# Altium integrated library Xilinx Spartan-IIE.IntLib: 126 symbols (part 6 of 22)
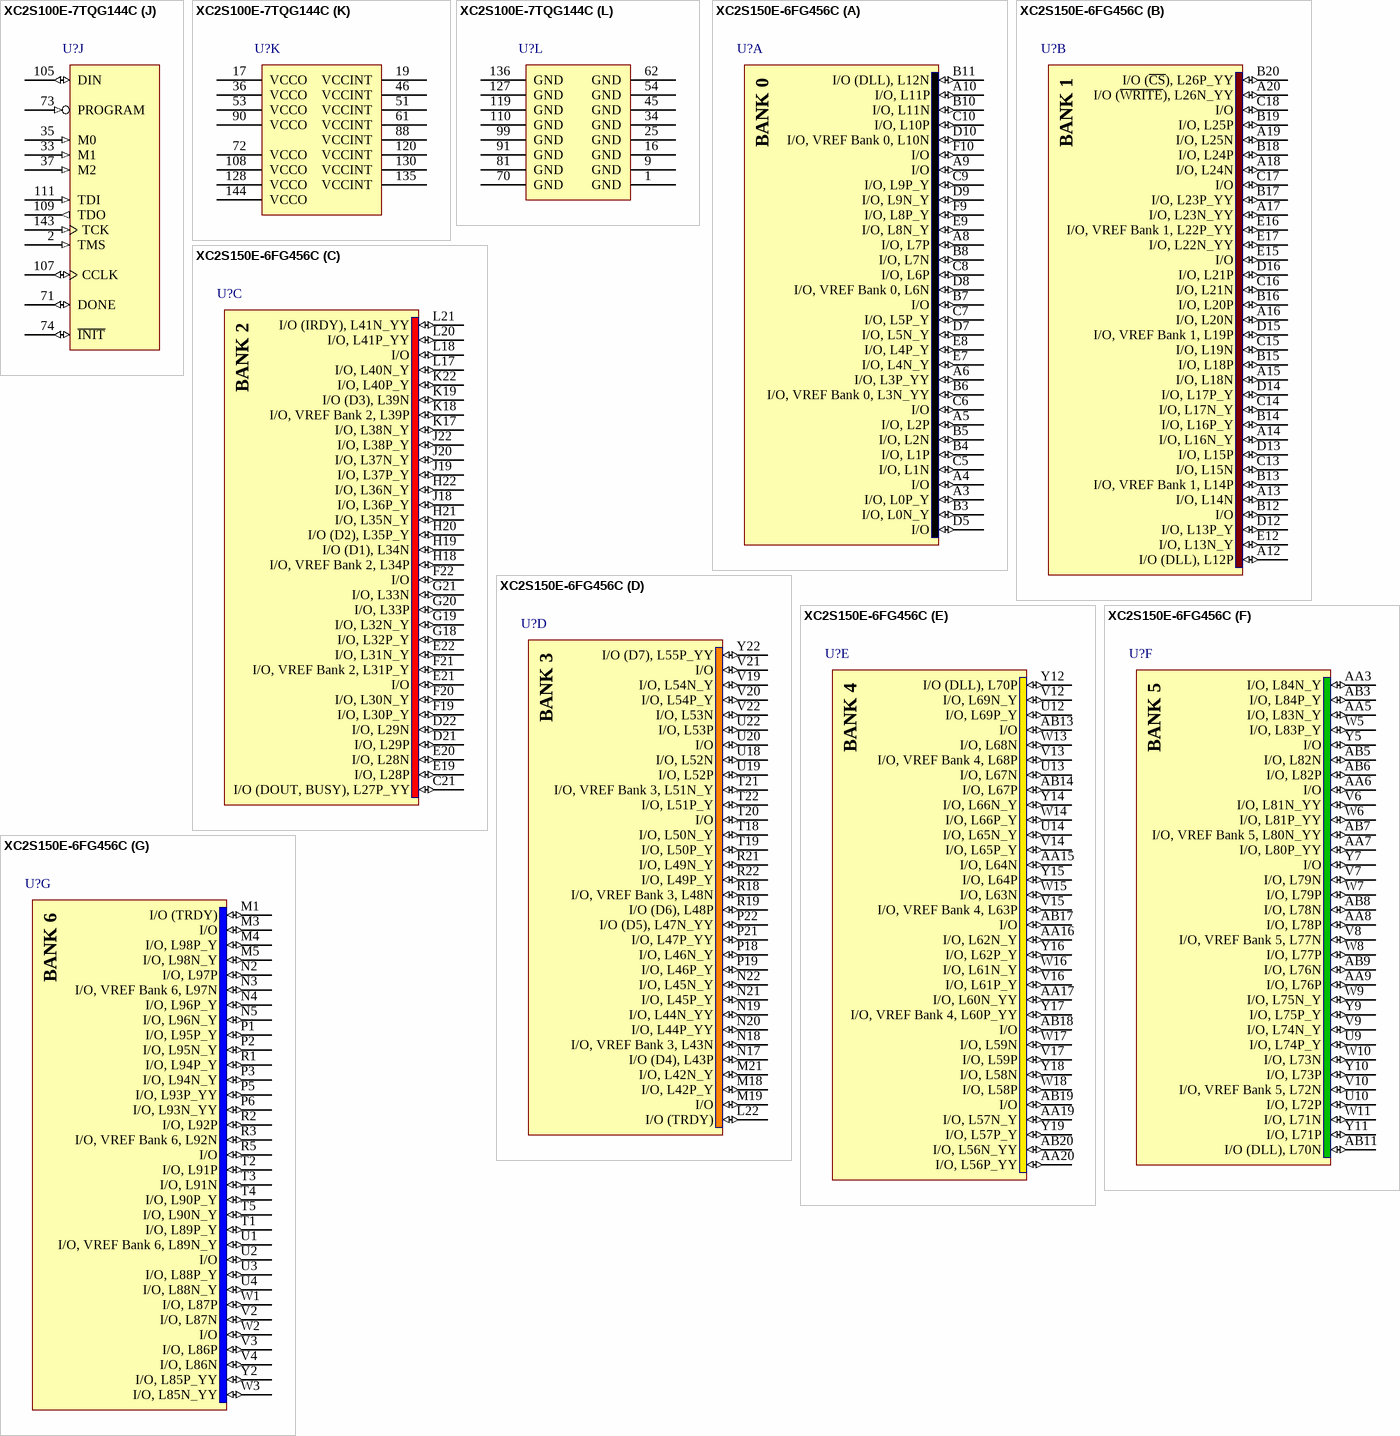
[diagram p122: symbols XC2S100E-7TQG144C to XC2S150E-6FG456C]

## XC2S100E-7TQG144C
designator U?
Spartan-IIE 1.8V FPGA, 144-Pin TQFP, Higher Performance, Commercial Grade, Pb-Free; Published: 2-Mar-2006; DatasheetVersion: 28-Jul-2004; PackageVersion: ver1.2, Jun-2004; PackageReference: TQG144; Publisher: Altium Limited; PackageDescription: 144-Pin Thin Quad Flat Pack (TQG144) - Pb-Free; Code_JEDEC: MS-026-BFB; ComponentLink1Description: Manufacturer Link; ComponentLink1URL: http://www.xilinx.com/products/silicon_solutions/fpgas/spartan_series/spartan2e_fpgas/index.htm; ComponentLink2Description: Datasheet; ComponentLink2URL: http://direct.xilinx.com/bvdocs/publications/ds077.pdf
footprint TQG144_N (Thin QFP, 144-Leads, Body 20x20mm, Pitch 0.5mm, IPC Medium Density)
footprint TQG144_L (Thin QFP, 144-Leads, Body 20x20mm, Pitch 0.5mm, IPC High Density)
footprint TQG144_M (Thin QFP, 144-Leads, Body 20x20mm, Pitch 0.5mm, IPC Low Density)
3D model XC2S100E-TQ144 (144-Pin Thin Quad Flat Pack (TQG144) - Pb-Free)
signal-integrity model XC2S100E_TQG144 (Spartan-IIE)
part A pins: 131 I/O (DLL), L2N (io), 132 I/O, VREF 0 (io), 133 I/O, L1P_YY (io), 134 I/O, L1N_YY (io), 137 I/O, L0P_YY (io), 138 I/O, VREF 0, L0N_YY (io), 139 I/O (io), 140 I/O, VREF 0 (io), 141 I/O (io), 142 I/O (io)
part B pins: 112 I/O (~{CS}), L5P_YY (io), 113 I/O (~{WRITE}), L5N_YY (io), 114 I/O (io), 115 I/O, VREF 1 (io), 116 I/O (io), 117 I/O, VREF 1, L4P_YY (io), 118 I/O, L4N_YY (io), 121 I/O, L3P_YY (io), 122 I/O, L3N_YY (io), 123 I/O, VREF 1 (io), 124 I/O (io), 125 I/O (DLL), L2P (io)
part C pins: 92 I/O (IRDY) (io), 93 I/O (io), 94 I/O (D3), L9N (io), 95 I/O, VREF 2, L9P (io), 96 I/O (io), 97 I/O, L8N_YY (io), 98 I/O (D2), L8P_YY (io), 100 I/O (D1), L7N (io), 101 I/O, VREF 2, L7P (io), 102 I/O (io), 103 I/O, VREF 2 (io), 104 I/O (io), 106 I/O (DOUT, BUSY), L6P_YY (io)
part D pins: 75 I/O (D7), L13P_YY (io), 76 I/O (io), 77 I/O, VREF 3 (io), 78 I/O (io), 79 I/O, VREF 3, L12N (io), 80 I/O (D6), L12P (io), 82 I/O (D5), L11N_YY (io), 83 I/O, L11P_YY (io), 84 I/O (io), 85 I/O, VREF 3, L10N (io), 86 I/O (D4), L10P (io), 87 I/O (io), 89 I/O (TRDY) (io)
part E pins: 56 I/O (DLL), L17P (io), 57 I/O (io), 58 I/O, VREF 4 (io), 59 I/O, L16N_YY (io), 60 I/O, L16P_YY (io), 63 I/O, L15N_YY (io), 64 I/O, VREF 4, L15P_YY (io), 65 I/O (io), 66 I/O, VREF 4 (io), 67 I/O (io), 68 I/O, L14N_YY (io), 69 I/O, L14P_YY (io)
part F pins: 38 I/O, L20N_YY (io), 39 I/O, L20P_YY (io), 40 I/O (io), 41 I/O, VREF 5 (io), 42 I/O (io), 43 I/O, VREF 5, L19N_YY (io), 44 I/O, L19P_YY (io), 47 I/O, L18N_YY (io), 48 I/O, L18P_YY (io), 49 I/O, VREF 5 (io), 50 I/O (DLL), L17N (io)
part G pins: 18 I/O (TRDY) (io), 20 I/O (io), 21 I/O, L24P (io), 22 I/O, VREF 6, L24N (io), 23 I/O, L23P_YY (io), 24 I/O, L23N_YY (io), 26 I/O, L22P (io), 27 I/O, VREF 6, L22N (io), 28 I/O (io), 29 I/O, VREF 6 (io), 30 I/O (io), 31 I/O, L21P_YY (io), 32 I/O, L21N_YY (io)
part H pins: 3 I/O (io), 4 I/O (io), 5 I/O, VREF 7 (io), 6 I/O (io), 7 I/O, VREF 7, L27P (io), 8 I/O, L27N (io), 10 I/O, L26P_YY (io), 11 I/O, L26N_YY (io), 12 I/O, VREF 7, L25P (io), 13 I/O, L25N (io), 14 I/O (io), 15 I/O (IRDY) (io)
part I pins: 52 GCK1, I (in), 55 GCK0, I (in), 126 GCK2, I (in), 129 GCK3, I (in)
part J pins: 2 TMS (in), 33 M1 (in), 35 M0 (in), 37 M2 (in), 71 DONE (io), 73 PROGRAM (in), 74 ~{INIT} (io) "I/O (I\N\I\T\), L13N_YY", 105 DIN (io) "I/O (DIN, D0), L6N_YY", 107 CCLK (io), 109 TDO (out), 111 TDI (in), 143 TCK (in)
part K pins: 17 VCCO (power), 19 VCCINT (power), 36 VCCO (power), 46 VCCINT (power), 51 VCCINT (power), 53 VCCO (power), 61 VCCINT (power), 72 VCCO (power), 88 VCCINT (power), 90 VCCO (power), 108 VCCO (power), 120 VCCINT (power), 128 VCCO (power), 130 VCCINT (power), 135 VCCINT (power), 144 VCCO (power)
part L pins: 1 GND (power), 9 GND (power), 16 GND (power), 25 GND (power), 34 GND (power), 45 GND (power), 54 GND (power), 62 GND (power), 70 GND (power), 81 GND (power), 91 GND (power), 99 GND (power), 110 GND (power), 119 GND (power), 127 GND (power), 136 GND (power)
part A text: BANK 0
part B text: BANK 1
part C text: BANK 2
part D text: BANK 3
part E text: BANK 4
part F text: BANK 5
part G text: BANK 6
part H text: BANK 7

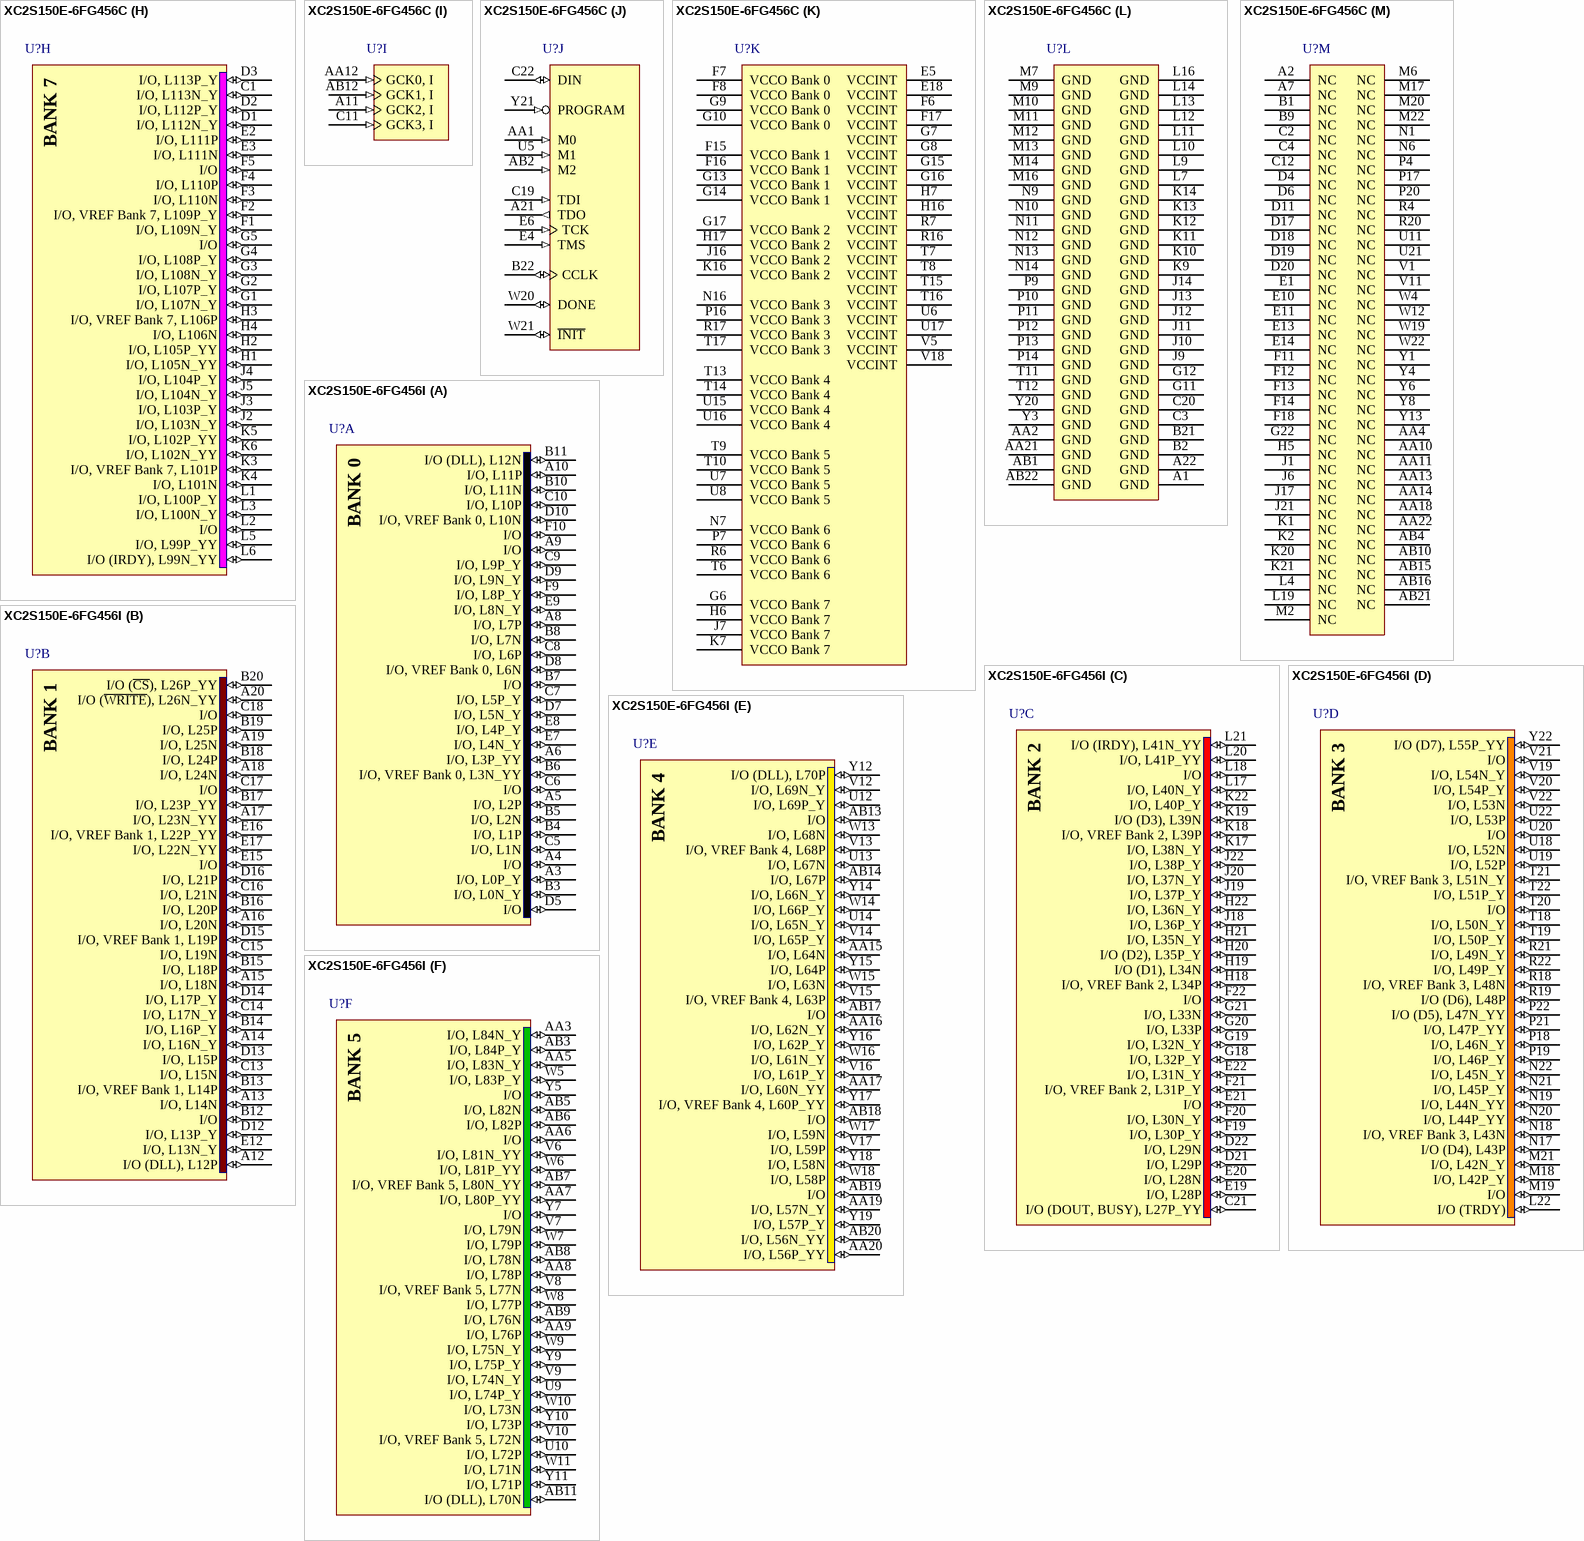
[diagram p30: symbols XC2S150E-6FG456C to XC2S150E-6FG456I]

## XC2S150E-6FG456C
designator U?
Spartan-IIE 1.8V FPGA, 456-Ball FBGA, Standard Performance, Commercial Grade; Published: 17-Jan-2003; LatestRevisionDate: 13-Apr-2006; LatestRevisionNote: IPC-7351 Footprint Added.; DatasheetVersion: 28-Jul-2004; PackageVersion: ver1.2.1, Mar-2005; PackageReference: FG456; Publisher: Altium Limited; PackageDescription: 456-Ball Fine Pitch Ball Grid Array (FG456); Code_JEDEC: MO-151-AAJ-1 (Depopulated); ComponentLink1Description: Manufacturer Link; ComponentLink1URL: http://www.xilinx.com/products/silicon_solutions/fpgas/spartan_series/spartan2e_fpgas/index.htm; ComponentLink2Description: Datasheet; ComponentLink2URL: http://direct.xilinx.com/bvdocs/publications/ds077.pdf
footprint FG456 (BGA, 456-Leads, Body 23x23mm, Pitch 1mm)
3D model XC2S150E-FG456 (456-Ball Fine Pitch Ball Grid Array (FG456))
signal-integrity model XC2S150E_FG456 (Spartan-IIE)
part A pins: A3 I/O, L0P_Y (io), A4 I/O (io), A5 I/O, L2P (io), A6 I/O, L3P_YY (io), A8 I/O, L7P (io), A9 I/O (io), A10 I/O, L11P (io), B3 I/O, L0N_Y (io), B4 I/O, L1P (io), B5 I/O, L2N (io), B6 I/O, VREF Bank 0, L3N_YY (io), B7 I/O (io), B8 I/O, L7N (io), B10 I/O, L11N (io), B11 I/O (DLL), L12N (io), C5 I/O, L1N (io), C6 I/O (io), C7 I/O, L5P_Y (io), C8 I/O, L6P (io), C9 I/O, L9P_Y (io), C10 I/O, L10P (io), D5 I/O (io), D7 I/O, L5N_Y (io), D8 I/O, VREF Bank 0, L6N (io), D9 I/O, L9N_Y (io), D10 I/O, VREF Bank 0, L10N (io), E7 I/O, L4N_Y (io), E8 I/O, L4P_Y (io), E9 I/O, L8N_Y (io), F9 I/O, L8P_Y (io), F10 I/O (io)
part B pins: A12 I/O (DLL), L12P (io), A13 I/O, L14N (io), A14 I/O, L16N_Y (io), A15 I/O, L18N (io), A16 I/O, L20N (io), A17 I/O, L23N_YY (io), A18 I/O, L24N (io), A19 I/O, L25N (io), A20 I/O (~{WRITE}), L26N_YY (io), B12 I/O (io), B13 I/O, VREF Bank 1, L14P (io), B14 I/O, L16P_Y (io), B15 I/O, L18P (io), B16 I/O, L20P (io), B17 I/O, L23P_YY (io), B18 I/O, L24P (io), B19 I/O, L25P (io), B20 I/O (~{CS}), L26P_YY (io), C13 I/O, L15N (io), C14 I/O, L17N_Y (io), C15 I/O, L19N (io), C16 I/O, L21N (io), C17 I/O (io), C18 I/O (io), D12 I/O, L13P_Y (io), D13 I/O, L15P (io), D14 I/O, L17P_Y (io), D15 I/O, VREF Bank 1, L19P (io), D16 I/O, L21P (io), E12 I/O, L13N_Y (io), E15 I/O (io), E16 I/O, VREF Bank 1, L22P_YY (io), E17 I/O, L22N_YY (io)
part C pins: C21 I/O (DOUT, BUSY), L27P_YY (io), D21 I/O, L29P (io), D22 I/O, L29N (io), E19 I/O, L28P (io), E20 I/O, L28N (io), E21 I/O (io), E22 I/O, L31N_Y (io), F19 I/O, L30P_Y (io), F20 I/O, L30N_Y (io), F21 I/O, VREF Bank 2, L31P_Y (io), F22 I/O (io), G18 I/O, L32P_Y (io), G19 I/O, L32N_Y (io), G20 I/O, L33P (io), G21 I/O, L33N (io), H18 I/O, VREF Bank 2, L34P (io), H19 I/O (D1), L34N (io), H20 I/O (D2), L35P_Y (io), H21 I/O, L35N_Y (io), H22 I/O, L36N_Y (io), J18 I/O, L36P_Y (io), J19 I/O, L37P_Y (io), J20 I/O, L37N_Y (io), J22 I/O, L38P_Y (io), K17 I/O, L38N_Y (io), K18 I/O, VREF Bank 2, L39P (io), K19 I/O (D3), L39N (io), K22 I/O, L40P_Y (io), L17 I/O, L40N_Y (io), L18 I/O (io), L20 I/O, L41P_YY (io), L21 I/O (IRDY), L41N_YY (io)
part D pins: L22 I/O (TRDY) (io), M18 I/O, L42P_Y (io), M19 I/O (io), M21 I/O, L42N_Y (io), N17 I/O (D4), L43P (io), N18 I/O, VREF Bank 3, L43N (io), N19 I/O, L44N_YY (io), N20 I/O, L44P_YY (io), N21 I/O, L45P_Y (io), N22 I/O, L45N_Y (io), P18 I/O, L46N_Y (io), P19 I/O, L46P_Y (io), P21 I/O, L47P_YY (io), P22 I/O (D5), L47N_YY (io), R18 I/O, VREF Bank 3, L48N (io), R19 I/O (D6), L48P (io), R21 I/O, L49N_Y (io), R22 I/O, L49P_Y (io), T18 I/O, L50N_Y (io), T19 I/O, L50P_Y (io), T20 I/O (io), T21 I/O, VREF Bank 3, L51N_Y (io), T22 I/O, L51P_Y (io), U18 I/O, L52N (io), U19 I/O, L52P (io), U20 I/O (io), U22 I/O, L53P (io), V19 I/O, L54N_Y (io), V20 I/O, L54P_Y (io), V21 I/O (io), V22 I/O, L53N (io), Y22 I/O (D7), L55P_YY (io)
part E pins: AA15 I/O, L64N (io), AA16 I/O, L62N_Y (io), AA17 I/O, L60N_YY (io), AA19 I/O, L57N_Y (io), AA20 I/O, L56P_YY (io), AB13 I/O (io), AB14 I/O, L67P (io), AB17 I/O (io), AB18 I/O (io), AB19 I/O (io), AB20 I/O, L56N_YY (io), U12 I/O, L69P_Y (io), U13 I/O, L67N (io), U14 I/O, L65N_Y (io), V12 I/O, L69N_Y (io), V13 I/O, VREF Bank 4, L68P (io), V14 I/O, L65P_Y (io), V15 I/O, VREF Bank 4, L63P (io), V16 I/O, L61P_Y (io), V17 I/O, L59P (io), W13 I/O, L68N (io), W14 I/O, L66P_Y (io), W15 I/O, L63N (io), W16 I/O, L61N_Y (io), W17 I/O, L59N (io), W18 I/O, L58P (io), Y12 I/O (DLL), L70P (io), Y14 I/O, L66N_Y (io), Y15 I/O, L64P (io), Y16 I/O, L62P_Y (io), Y17 I/O, VREF Bank 4, L60P_YY (io), Y18 I/O, L58N (io), Y19 I/O, L57P_Y (io)
part F pins: AA3 I/O, L84N_Y (io), AA5 I/O, L83N_Y (io), AA6 I/O (io), AA7 I/O, L80P_YY (io), AA8 I/O, L78P (io), AA9 I/O, L76P (io), AB3 I/O, L84P_Y (io), AB5 I/O, L82N (io), AB6 I/O, L82P (io), AB7 I/O, VREF Bank 5, L80N_YY (io), AB8 I/O, L78N (io), AB9 I/O, L76N (io), AB11 I/O (DLL), L70N (io), U9 I/O, L74P_Y (io), U10 I/O, L72P (io), V6 I/O, L81N_YY (io), V7 I/O, L79N (io), V8 I/O, VREF Bank 5, L77N (io), V9 I/O, L74N_Y (io), V10 I/O, VREF Bank 5, L72N (io), W5 I/O, L83P_Y (io), W6 I/O, L81P_YY (io), W7 I/O, L79P (io), W8 I/O, L77P (io), W9 I/O, L75N_Y (io), W10 I/O, L73N (io), W11 I/O, L71N (io), Y5 I/O (io), Y7 I/O (io), Y9 I/O, L75P_Y (io), Y10 I/O, L73P (io), Y11 I/O, L71P (io)
part G pins: M1 I/O (TRDY) (io), M3 I/O (io), M4 I/O, L98P_Y (io), M5 I/O, L98N_Y (io), N2 I/O, L97P (io), N3 I/O, VREF Bank 6, L97N (io), N4 I/O, L96P_Y (io), N5 I/O, L96N_Y (io), P1 I/O, L95P_Y (io), P2 I/O, L95N_Y (io), P3 I/O, L94N_Y (io), P5 I/O, L93P_YY (io), P6 I/O, L93N_YY (io), R1 I/O, L94P_Y (io), R2 I/O, L92P (io), R3 I/O, VREF Bank 6, L92N (io), R5 I/O (io), T1 I/O, L89P_Y (io), T2 I/O, L91P (io), T3 I/O, L91N (io), T4 I/O, L90P_Y (io), T5 I/O, L90N_Y (io), U1 I/O, VREF Bank 6, L89N_Y (io), U2 I/O (io), U3 I/O, L88P_Y (io), U4 I/O, L88N_Y (io), V2 I/O, L87N (io), V3 I/O, L86P (io), V4 I/O, L86N (io), W1 I/O, L87P (io), W2 I/O (io), W3 I/O, L85N_YY (io), Y2 I/O, L85P_YY (io)
part H pins: C1 I/O, L113N_Y (io), D1 I/O, L112N_Y (io), D2 I/O, L112P_Y (io), D3 I/O, L113P_Y (io), E2 I/O, L111P (io), E3 I/O, L111N (io), F1 I/O, L109N_Y (io), F2 I/O, VREF Bank 7, L109P_Y (io), F3 I/O, L110N (io), F4 I/O, L110P (io), F5 I/O (io), G1 I/O, L107N_Y (io), G2 I/O, L107P_Y (io), G3 I/O, L108N_Y (io), G4 I/O, L108P_Y (io), G5 I/O (io), H1 I/O, L105N_YY (io), H2 I/O, L105P_YY (io), H3 I/O, VREF Bank 7, L106P (io), H4 I/O, L106N (io), J2 I/O, L103N_Y (io), J3 I/O, L103P_Y (io), J4 I/O, L104P_Y (io), J5 I/O, L104N_Y (io), K3 I/O, VREF Bank 7, L101P (io), K4 I/O, L101N (io), K5 I/O, L102P_YY (io), K6 I/O, L102N_YY (io), L1 I/O, L100P_Y (io), L2 I/O (io), L3 I/O, L100N_Y (io), L5 I/O, L99P_YY (io), L6 I/O (IRDY), L99N_YY (io)
part I pins: A11 GCK2, I (in), AA12 GCK0, I (in), AB12 GCK1, I (in), C11 GCK3, I (in)
part J pins: A21 TDO (out), AA1 M0 (in), AB2 M2 (in), B22 CCLK (io), C19 TDI (in), C22 DIN (io) "I/O (DIN, D0), L27N_YY", E4 TMS (in), E6 TCK (in), U5 M1 (in), W20 DONE (io), W21 ~{INIT} (io) "I/O (I\N\I\T\), L55N_YY", Y21 PROGRAM (in)
part K pins: E5 VCCINT (power), E18 VCCINT (power), F6 VCCINT (power), F7 VCCO Bank 0 (power), F8 VCCO Bank 0 (power), F15 VCCO Bank 1 (power), F16 VCCO Bank 1 (power), F17 VCCINT (power), G6 VCCO Bank 7 (power), G7 VCCINT (power), G8 VCCINT (power), G9 VCCO Bank 0 (power), G10 VCCO Bank 0 (power), G13 VCCO Bank 1 (power), G14 VCCO Bank 1 (power), G15 VCCINT (power), G16 VCCINT (power), G17 VCCO Bank 2 (power), H6 VCCO Bank 7 (power), H7 VCCINT (power), H16 VCCINT (power), H17 VCCO Bank 2 (power), J7 VCCO Bank 7 (power), J16 VCCO Bank 2 (power), K7 VCCO Bank 7 (power), K16 VCCO Bank 2 (power), N7 VCCO Bank 6 (power), N16 VCCO Bank 3 (power), P7 VCCO Bank 6 (power), P16 VCCO Bank 3 (power), R6 VCCO Bank 6 (power), R7 VCCINT (power), R16 VCCINT (power), R17 VCCO Bank 3 (power), T6 VCCO Bank 6 (power), T7 VCCINT (power), T8 VCCINT (power), T9 VCCO Bank 5 (power), T10 VCCO Bank 5 (power), T13 VCCO Bank 4 (power), T14 VCCO Bank 4 (power), T15 VCCINT (power), T16 VCCINT (power), T17 VCCO Bank 3 (power), U6 VCCINT (power), U7 VCCO Bank 5 (power), U8 VCCO Bank 5 (power), U15 VCCO Bank 4 (power), U16 VCCO Bank 4 (power), U17 VCCINT (power), V5 VCCINT (power), V18 VCCINT (power)
part L pins: A1 GND (power), A22 GND (power), AA2 GND (power), AA21 GND (power), AB1 GND (power), AB22 GND (power), B2 GND (power), B21 GND (power), C3 GND (power), C20 GND (power), G11 GND (power), G12 GND (power), J9 GND (power), J10 GND (power), J11 GND (power), J12 GND (power), J13 GND (power), J14 GND (power), K9 GND (power), K10 GND (power), K11 GND (power), K12 GND (power), K13 GND (power), K14 GND (power), L7 GND (power), L9 GND (power), L10 GND (power), L11 GND (power), L12 GND (power), L13 GND (power), L14 GND (power), L16 GND (power), M7 GND (power), M9 GND (power), M10 GND (power), M11 GND (power), M12 GND (power), M13 GND (power), M14 GND (power), M16 GND (power), N9 GND (power), N10 GND (power), N11 GND (power), N12 GND (power), N13 GND (power), N14 GND (power), P9 GND (power), P10 GND (power), P11 GND (power), P12 GND (power), P13 GND (power), P14 GND (power), T11 GND (power), T12 GND (power), Y3 GND (power), Y20 GND (power)
part M pins: A2 NC, A7 NC, AA4 NC, AA10 NC, AA11 NC, AA13 NC, AA14 NC, AA18 NC, AA22 NC, AB4 NC, AB10 NC, AB15 NC, AB16 NC, AB21 NC, B1 NC, B9 NC, C2 NC, C4 NC, C12 NC, D4 NC, D6 NC, D11 NC, D17 NC, D18 NC, D19 NC, D20 NC, E1 NC, E10 NC, E11 NC, E13 NC, E14 NC, F11 NC, F12 NC, F13 NC, F14 NC, F18 NC, G22 NC, H5 NC, J1 NC, J6 NC, J17 NC, J21 NC, K1 NC, K2 NC, K20 NC, K21 NC, L4 NC, L19 NC, M2 NC, M6 NC, M17 NC, M20 NC, M22 NC, N1 NC, N6 NC, P4 NC, P17 NC, P20 NC, R4 NC, R20 NC, U11 NC, U21 NC, V1 NC, V11 NC, W4 NC, W12 NC, W19 NC, W22 NC, Y1 NC, Y4 NC, Y6 NC, Y8 NC, Y13 NC
part A text: BANK 0
part B text: BANK 1
part C text: BANK 2
part D text: BANK 3
part E text: BANK 4
part F text: BANK 5
part G text: BANK 6
part H text: BANK 7

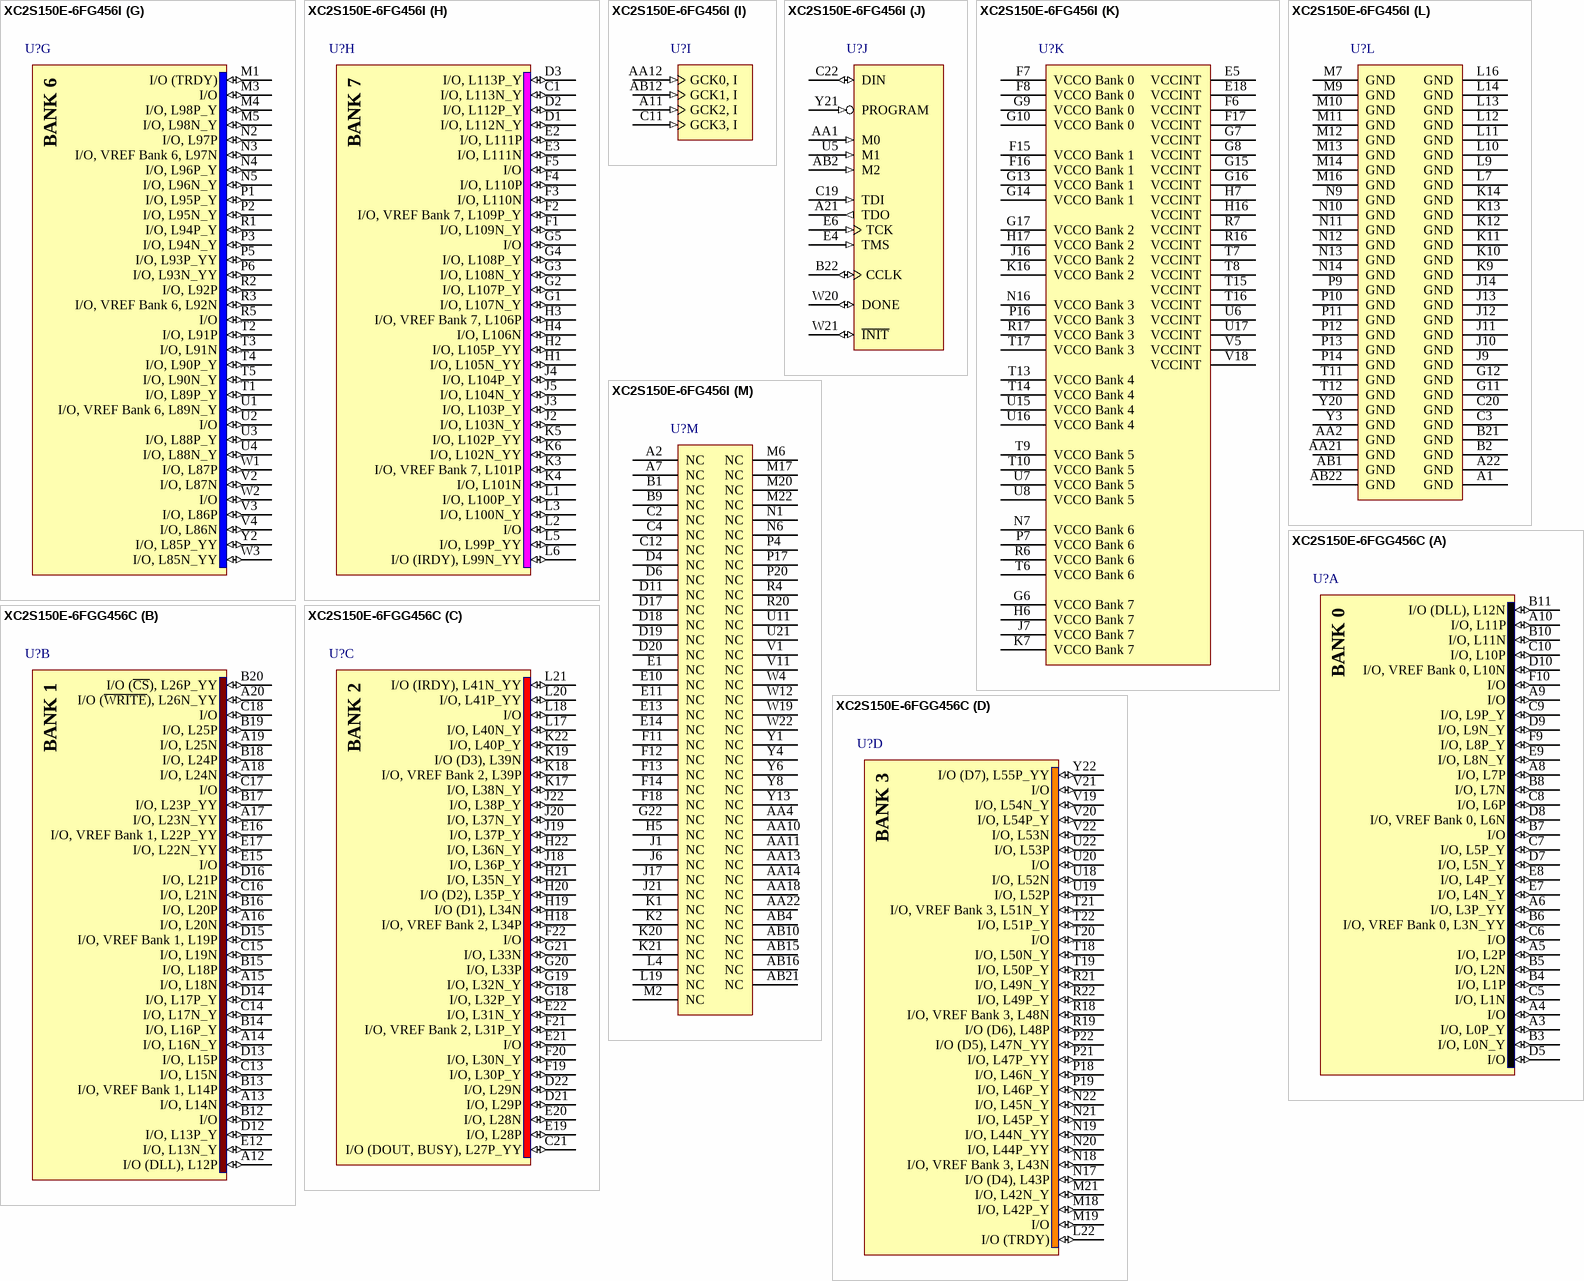
[diagram p31: symbols XC2S150E-6FG456I to XC2S150E-6FGG456C]

## XC2S150E-6FG456I
designator U?
Spartan-IIE 1.8V FPGA, 456-Ball FBGA, Standard Performance, Industrial Grade; Published: 17-Jan-2003; LatestRevisionDate: 13-Apr-2006; LatestRevisionNote: IPC-7351 Footprint Added.; DatasheetVersion: 28-Jul-2004; PackageVersion: ver1.2.1, Mar-2005; PackageReference: FG456; Publisher: Altium Limited; PackageDescription: 456-Ball Fine Pitch Ball Grid Array (FG456); Code_JEDEC: MO-151-AAJ-1 (Depopulated); ComponentLink1Description: Manufacturer Link; ComponentLink1URL: http://www.xilinx.com/products/silicon_solutions/fpgas/spartan_series/spartan2e_fpgas/index.htm; ComponentLink2Description: Datasheet; ComponentLink2URL: http://direct.xilinx.com/bvdocs/publications/ds077.pdf
footprint FG456 (BGA, 456-Leads, Body 23x23mm, Pitch 1mm)
3D model XC2S150E-FG456 (456-Ball Fine Pitch Ball Grid Array (FG456))
signal-integrity model XC2S150E_FG456 (Spartan-IIE)
part A pins: A3 I/O, L0P_Y (io), A4 I/O (io), A5 I/O, L2P (io), A6 I/O, L3P_YY (io), A8 I/O, L7P (io), A9 I/O (io), A10 I/O, L11P (io), B3 I/O, L0N_Y (io), B4 I/O, L1P (io), B5 I/O, L2N (io), B6 I/O, VREF Bank 0, L3N_YY (io), B7 I/O (io), B8 I/O, L7N (io), B10 I/O, L11N (io), B11 I/O (DLL), L12N (io), C5 I/O, L1N (io), C6 I/O (io), C7 I/O, L5P_Y (io), C8 I/O, L6P (io), C9 I/O, L9P_Y (io), C10 I/O, L10P (io), D5 I/O (io), D7 I/O, L5N_Y (io), D8 I/O, VREF Bank 0, L6N (io), D9 I/O, L9N_Y (io), D10 I/O, VREF Bank 0, L10N (io), E7 I/O, L4N_Y (io), E8 I/O, L4P_Y (io), E9 I/O, L8N_Y (io), F9 I/O, L8P_Y (io), F10 I/O (io)
part B pins: A12 I/O (DLL), L12P (io), A13 I/O, L14N (io), A14 I/O, L16N_Y (io), A15 I/O, L18N (io), A16 I/O, L20N (io), A17 I/O, L23N_YY (io), A18 I/O, L24N (io), A19 I/O, L25N (io), A20 I/O (~{WRITE}), L26N_YY (io), B12 I/O (io), B13 I/O, VREF Bank 1, L14P (io), B14 I/O, L16P_Y (io), B15 I/O, L18P (io), B16 I/O, L20P (io), B17 I/O, L23P_YY (io), B18 I/O, L24P (io), B19 I/O, L25P (io), B20 I/O (~{CS}), L26P_YY (io), C13 I/O, L15N (io), C14 I/O, L17N_Y (io), C15 I/O, L19N (io), C16 I/O, L21N (io), C17 I/O (io), C18 I/O (io), D12 I/O, L13P_Y (io), D13 I/O, L15P (io), D14 I/O, L17P_Y (io), D15 I/O, VREF Bank 1, L19P (io), D16 I/O, L21P (io), E12 I/O, L13N_Y (io), E15 I/O (io), E16 I/O, VREF Bank 1, L22P_YY (io), E17 I/O, L22N_YY (io)
part C pins: C21 I/O (DOUT, BUSY), L27P_YY (io), D21 I/O, L29P (io), D22 I/O, L29N (io), E19 I/O, L28P (io), E20 I/O, L28N (io), E21 I/O (io), E22 I/O, L31N_Y (io), F19 I/O, L30P_Y (io), F20 I/O, L30N_Y (io), F21 I/O, VREF Bank 2, L31P_Y (io), F22 I/O (io), G18 I/O, L32P_Y (io), G19 I/O, L32N_Y (io), G20 I/O, L33P (io), G21 I/O, L33N (io), H18 I/O, VREF Bank 2, L34P (io), H19 I/O (D1), L34N (io), H20 I/O (D2), L35P_Y (io), H21 I/O, L35N_Y (io), H22 I/O, L36N_Y (io), J18 I/O, L36P_Y (io), J19 I/O, L37P_Y (io), J20 I/O, L37N_Y (io), J22 I/O, L38P_Y (io), K17 I/O, L38N_Y (io), K18 I/O, VREF Bank 2, L39P (io), K19 I/O (D3), L39N (io), K22 I/O, L40P_Y (io), L17 I/O, L40N_Y (io), L18 I/O (io), L20 I/O, L41P_YY (io), L21 I/O (IRDY), L41N_YY (io)
part D pins: L22 I/O (TRDY) (io), M18 I/O, L42P_Y (io), M19 I/O (io), M21 I/O, L42N_Y (io), N17 I/O (D4), L43P (io), N18 I/O, VREF Bank 3, L43N (io), N19 I/O, L44N_YY (io), N20 I/O, L44P_YY (io), N21 I/O, L45P_Y (io), N22 I/O, L45N_Y (io), P18 I/O, L46N_Y (io), P19 I/O, L46P_Y (io), P21 I/O, L47P_YY (io), P22 I/O (D5), L47N_YY (io), R18 I/O, VREF Bank 3, L48N (io), R19 I/O (D6), L48P (io), R21 I/O, L49N_Y (io), R22 I/O, L49P_Y (io), T18 I/O, L50N_Y (io), T19 I/O, L50P_Y (io), T20 I/O (io), T21 I/O, VREF Bank 3, L51N_Y (io), T22 I/O, L51P_Y (io), U18 I/O, L52N (io), U19 I/O, L52P (io), U20 I/O (io), U22 I/O, L53P (io), V19 I/O, L54N_Y (io), V20 I/O, L54P_Y (io), V21 I/O (io), V22 I/O, L53N (io), Y22 I/O (D7), L55P_YY (io)
part E pins: AA15 I/O, L64N (io), AA16 I/O, L62N_Y (io), AA17 I/O, L60N_YY (io), AA19 I/O, L57N_Y (io), AA20 I/O, L56P_YY (io), AB13 I/O (io), AB14 I/O, L67P (io), AB17 I/O (io), AB18 I/O (io), AB19 I/O (io), AB20 I/O, L56N_YY (io), U12 I/O, L69P_Y (io), U13 I/O, L67N (io), U14 I/O, L65N_Y (io), V12 I/O, L69N_Y (io), V13 I/O, VREF Bank 4, L68P (io), V14 I/O, L65P_Y (io), V15 I/O, VREF Bank 4, L63P (io), V16 I/O, L61P_Y (io), V17 I/O, L59P (io), W13 I/O, L68N (io), W14 I/O, L66P_Y (io), W15 I/O, L63N (io), W16 I/O, L61N_Y (io), W17 I/O, L59N (io), W18 I/O, L58P (io), Y12 I/O (DLL), L70P (io), Y14 I/O, L66N_Y (io), Y15 I/O, L64P (io), Y16 I/O, L62P_Y (io), Y17 I/O, VREF Bank 4, L60P_YY (io), Y18 I/O, L58N (io), Y19 I/O, L57P_Y (io)
part F pins: AA3 I/O, L84N_Y (io), AA5 I/O, L83N_Y (io), AA6 I/O (io), AA7 I/O, L80P_YY (io), AA8 I/O, L78P (io), AA9 I/O, L76P (io), AB3 I/O, L84P_Y (io), AB5 I/O, L82N (io), AB6 I/O, L82P (io), AB7 I/O, VREF Bank 5, L80N_YY (io), AB8 I/O, L78N (io), AB9 I/O, L76N (io), AB11 I/O (DLL), L70N (io), U9 I/O, L74P_Y (io), U10 I/O, L72P (io), V6 I/O, L81N_YY (io), V7 I/O, L79N (io), V8 I/O, VREF Bank 5, L77N (io), V9 I/O, L74N_Y (io), V10 I/O, VREF Bank 5, L72N (io), W5 I/O, L83P_Y (io), W6 I/O, L81P_YY (io), W7 I/O, L79P (io), W8 I/O, L77P (io), W9 I/O, L75N_Y (io), W10 I/O, L73N (io), W11 I/O, L71N (io), Y5 I/O (io), Y7 I/O (io), Y9 I/O, L75P_Y (io), Y10 I/O, L73P (io), Y11 I/O, L71P (io)
part G pins: M1 I/O (TRDY) (io), M3 I/O (io), M4 I/O, L98P_Y (io), M5 I/O, L98N_Y (io), N2 I/O, L97P (io), N3 I/O, VREF Bank 6, L97N (io), N4 I/O, L96P_Y (io), N5 I/O, L96N_Y (io), P1 I/O, L95P_Y (io), P2 I/O, L95N_Y (io), P3 I/O, L94N_Y (io), P5 I/O, L93P_YY (io), P6 I/O, L93N_YY (io), R1 I/O, L94P_Y (io), R2 I/O, L92P (io), R3 I/O, VREF Bank 6, L92N (io), R5 I/O (io), T1 I/O, L89P_Y (io), T2 I/O, L91P (io), T3 I/O, L91N (io), T4 I/O, L90P_Y (io), T5 I/O, L90N_Y (io), U1 I/O, VREF Bank 6, L89N_Y (io), U2 I/O (io), U3 I/O, L88P_Y (io), U4 I/O, L88N_Y (io), V2 I/O, L87N (io), V3 I/O, L86P (io), V4 I/O, L86N (io), W1 I/O, L87P (io), W2 I/O (io), W3 I/O, L85N_YY (io), Y2 I/O, L85P_YY (io)
part H pins: C1 I/O, L113N_Y (io), D1 I/O, L112N_Y (io), D2 I/O, L112P_Y (io), D3 I/O, L113P_Y (io), E2 I/O, L111P (io), E3 I/O, L111N (io), F1 I/O, L109N_Y (io), F2 I/O, VREF Bank 7, L109P_Y (io), F3 I/O, L110N (io), F4 I/O, L110P (io), F5 I/O (io), G1 I/O, L107N_Y (io), G2 I/O, L107P_Y (io), G3 I/O, L108N_Y (io), G4 I/O, L108P_Y (io), G5 I/O (io), H1 I/O, L105N_YY (io), H2 I/O, L105P_YY (io), H3 I/O, VREF Bank 7, L106P (io), H4 I/O, L106N (io), J2 I/O, L103N_Y (io), J3 I/O, L103P_Y (io), J4 I/O, L104P_Y (io), J5 I/O, L104N_Y (io), K3 I/O, VREF Bank 7, L101P (io), K4 I/O, L101N (io), K5 I/O, L102P_YY (io), K6 I/O, L102N_YY (io), L1 I/O, L100P_Y (io), L2 I/O (io), L3 I/O, L100N_Y (io), L5 I/O, L99P_YY (io), L6 I/O (IRDY), L99N_YY (io)
part I pins: A11 GCK2, I (in), AA12 GCK0, I (in), AB12 GCK1, I (in), C11 GCK3, I (in)
part J pins: A21 TDO (out), AA1 M0 (in), AB2 M2 (in), B22 CCLK (io), C19 TDI (in), C22 DIN (io) "I/O (DIN, D0), L27N_YY", E4 TMS (in), E6 TCK (in), U5 M1 (in), W20 DONE (io), W21 ~{INIT} (io) "I/O (I\N\I\T\), L55N_YY", Y21 PROGRAM (in)
part K pins: E5 VCCINT (power), E18 VCCINT (power), F6 VCCINT (power), F7 VCCO Bank 0 (power), F8 VCCO Bank 0 (power), F15 VCCO Bank 1 (power), F16 VCCO Bank 1 (power), F17 VCCINT (power), G6 VCCO Bank 7 (power), G7 VCCINT (power), G8 VCCINT (power), G9 VCCO Bank 0 (power), G10 VCCO Bank 0 (power), G13 VCCO Bank 1 (power), G14 VCCO Bank 1 (power), G15 VCCINT (power), G16 VCCINT (power), G17 VCCO Bank 2 (power), H6 VCCO Bank 7 (power), H7 VCCINT (power), H16 VCCINT (power), H17 VCCO Bank 2 (power), J7 VCCO Bank 7 (power), J16 VCCO Bank 2 (power), K7 VCCO Bank 7 (power), K16 VCCO Bank 2 (power), N7 VCCO Bank 6 (power), N16 VCCO Bank 3 (power), P7 VCCO Bank 6 (power), P16 VCCO Bank 3 (power), R6 VCCO Bank 6 (power), R7 VCCINT (power), R16 VCCINT (power), R17 VCCO Bank 3 (power), T6 VCCO Bank 6 (power), T7 VCCINT (power), T8 VCCINT (power), T9 VCCO Bank 5 (power), T10 VCCO Bank 5 (power), T13 VCCO Bank 4 (power), T14 VCCO Bank 4 (power), T15 VCCINT (power), T16 VCCINT (power), T17 VCCO Bank 3 (power), U6 VCCINT (power), U7 VCCO Bank 5 (power), U8 VCCO Bank 5 (power), U15 VCCO Bank 4 (power), U16 VCCO Bank 4 (power), U17 VCCINT (power), V5 VCCINT (power), V18 VCCINT (power)
part L pins: A1 GND (power), A22 GND (power), AA2 GND (power), AA21 GND (power), AB1 GND (power), AB22 GND (power), B2 GND (power), B21 GND (power), C3 GND (power), C20 GND (power), G11 GND (power), G12 GND (power), J9 GND (power), J10 GND (power), J11 GND (power), J12 GND (power), J13 GND (power), J14 GND (power), K9 GND (power), K10 GND (power), K11 GND (power), K12 GND (power), K13 GND (power), K14 GND (power), L7 GND (power), L9 GND (power), L10 GND (power), L11 GND (power), L12 GND (power), L13 GND (power), L14 GND (power), L16 GND (power), M7 GND (power), M9 GND (power), M10 GND (power), M11 GND (power), M12 GND (power), M13 GND (power), M14 GND (power), M16 GND (power), N9 GND (power), N10 GND (power), N11 GND (power), N12 GND (power), N13 GND (power), N14 GND (power), P9 GND (power), P10 GND (power), P11 GND (power), P12 GND (power), P13 GND (power), P14 GND (power), T11 GND (power), T12 GND (power), Y3 GND (power), Y20 GND (power)
part M pins: A2 NC, A7 NC, AA4 NC, AA10 NC, AA11 NC, AA13 NC, AA14 NC, AA18 NC, AA22 NC, AB4 NC, AB10 NC, AB15 NC, AB16 NC, AB21 NC, B1 NC, B9 NC, C2 NC, C4 NC, C12 NC, D4 NC, D6 NC, D11 NC, D17 NC, D18 NC, D19 NC, D20 NC, E1 NC, E10 NC, E11 NC, E13 NC, E14 NC, F11 NC, F12 NC, F13 NC, F14 NC, F18 NC, G22 NC, H5 NC, J1 NC, J6 NC, J17 NC, J21 NC, K1 NC, K2 NC, K20 NC, K21 NC, L4 NC, L19 NC, M2 NC, M6 NC, M17 NC, M20 NC, M22 NC, N1 NC, N6 NC, P4 NC, P17 NC, P20 NC, R4 NC, R20 NC, U11 NC, U21 NC, V1 NC, V11 NC, W4 NC, W12 NC, W19 NC, W22 NC, Y1 NC, Y4 NC, Y6 NC, Y8 NC, Y13 NC
part A text: BANK 0
part B text: BANK 1
part C text: BANK 2
part D text: BANK 3
part E text: BANK 4
part F text: BANK 5
part G text: BANK 6
part H text: BANK 7

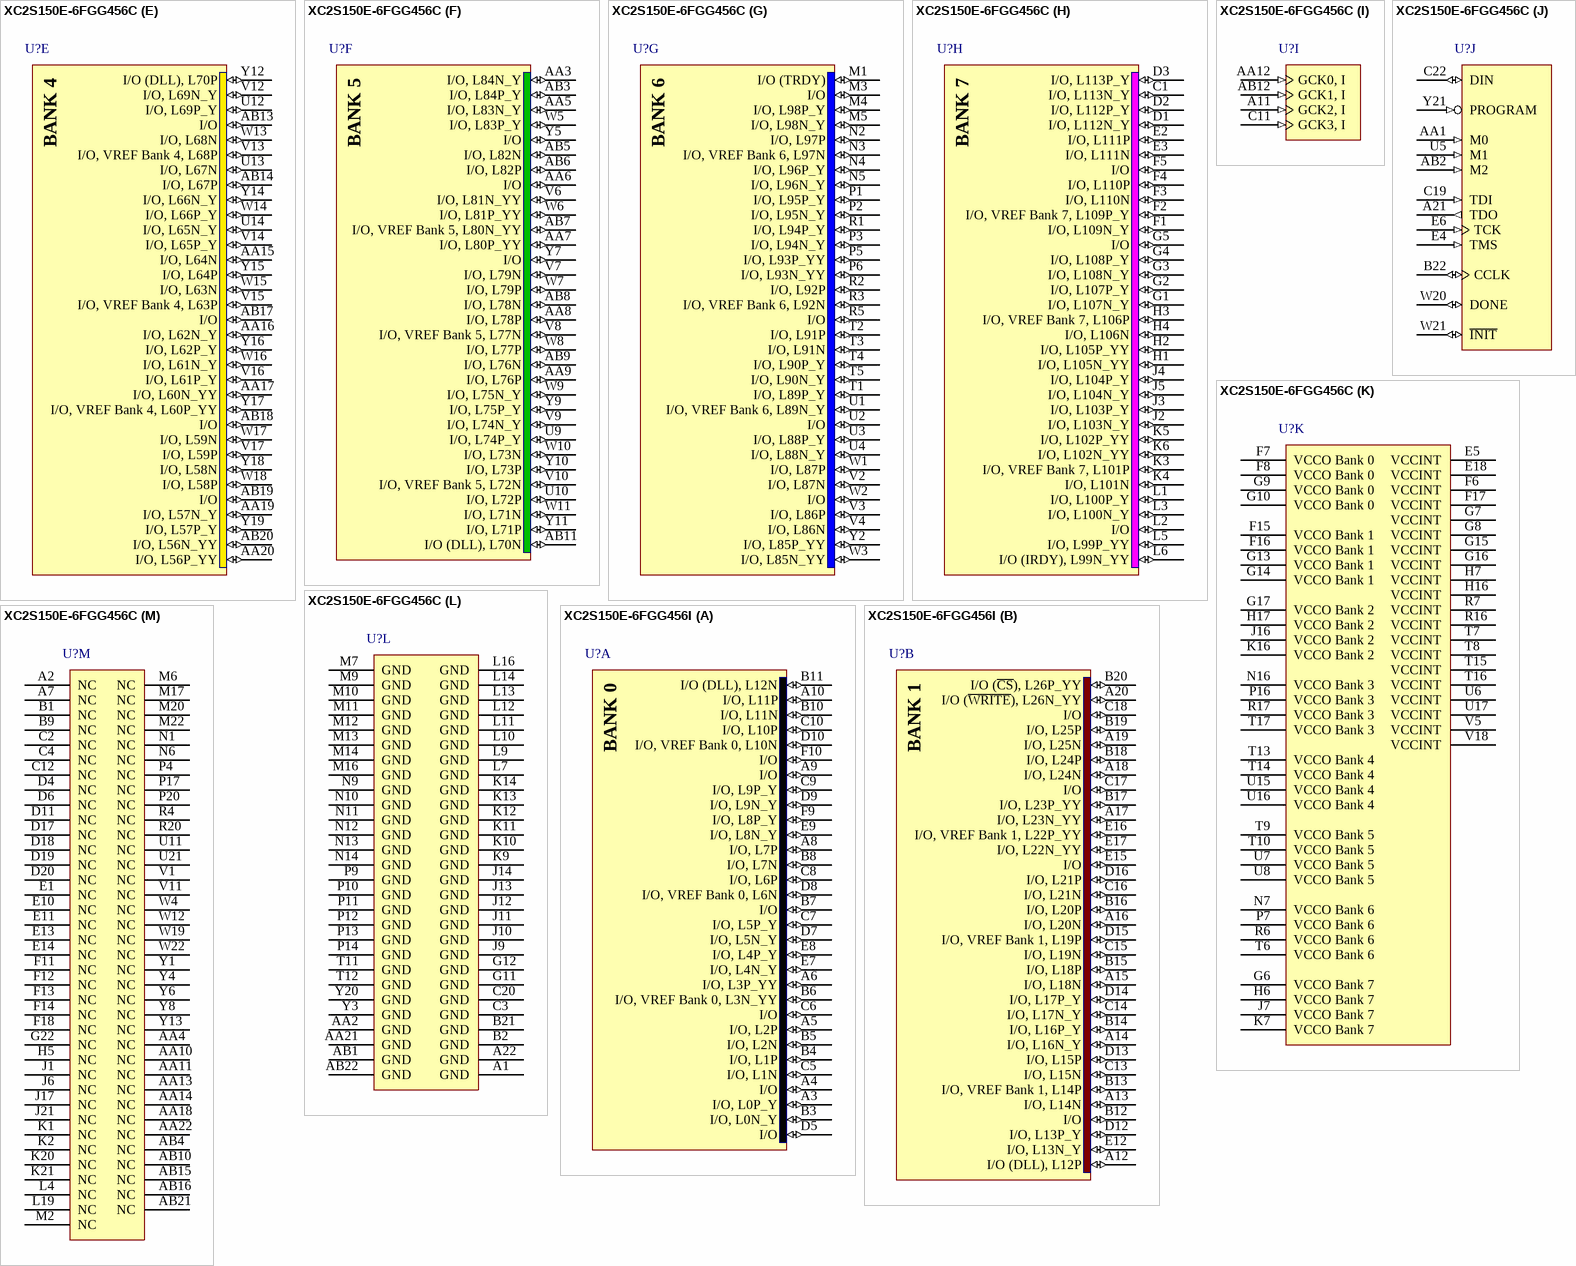
[diagram p32: symbols XC2S150E-6FGG456C to XC2S150E-6FGG456I]

## XC2S150E-6FGG456C
designator U?
Spartan-IIE 1.8V FPGA, 456-Ball FBGA, Standard Performance, Commercial Grade, Pb-Free; Published: 2-Mar-2006; DatasheetVersion: 28-Jul-2004; PackageVersion: ver1.2.1, Mar-2005; PackageReference: FGG456; Publisher: Altium Limited; PackageDescription: 456-Ball Fine Pitch Ball Grid Array (FGG456) - Pb-Free; Code_JEDEC: MO-151-AAJ-1 (Depopulated); ComponentLink1Description: Manufacturer Link; ComponentLink1URL: http://www.xilinx.com/products/silicon_solutions/fpgas/spartan_series/spartan2e_fpgas/index.htm; ComponentLink2Description: Datasheet; ComponentLink2URL: http://direct.xilinx.com/bvdocs/publications/ds077.pdf
footprint FGG456 (BGA, 456-Leads, Body 23x23mm, Pitch 1mm)
3D model XC2S150E-FG456 (456-Ball Fine Pitch Ball Grid Array (FGG456) - Pb-Free)
signal-integrity model XC2S150E_FGG456 (Spartan-IIE)
part A pins: A3 I/O, L0P_Y (io), A4 I/O (io), A5 I/O, L2P (io), A6 I/O, L3P_YY (io), A8 I/O, L7P (io), A9 I/O (io), A10 I/O, L11P (io), B3 I/O, L0N_Y (io), B4 I/O, L1P (io), B5 I/O, L2N (io), B6 I/O, VREF Bank 0, L3N_YY (io), B7 I/O (io), B8 I/O, L7N (io), B10 I/O, L11N (io), B11 I/O (DLL), L12N (io), C5 I/O, L1N (io), C6 I/O (io), C7 I/O, L5P_Y (io), C8 I/O, L6P (io), C9 I/O, L9P_Y (io), C10 I/O, L10P (io), D5 I/O (io), D7 I/O, L5N_Y (io), D8 I/O, VREF Bank 0, L6N (io), D9 I/O, L9N_Y (io), D10 I/O, VREF Bank 0, L10N (io), E7 I/O, L4N_Y (io), E8 I/O, L4P_Y (io), E9 I/O, L8N_Y (io), F9 I/O, L8P_Y (io), F10 I/O (io)
part B pins: A12 I/O (DLL), L12P (io), A13 I/O, L14N (io), A14 I/O, L16N_Y (io), A15 I/O, L18N (io), A16 I/O, L20N (io), A17 I/O, L23N_YY (io), A18 I/O, L24N (io), A19 I/O, L25N (io), A20 I/O (~{WRITE}), L26N_YY (io), B12 I/O (io), B13 I/O, VREF Bank 1, L14P (io), B14 I/O, L16P_Y (io), B15 I/O, L18P (io), B16 I/O, L20P (io), B17 I/O, L23P_YY (io), B18 I/O, L24P (io), B19 I/O, L25P (io), B20 I/O (~{CS}), L26P_YY (io), C13 I/O, L15N (io), C14 I/O, L17N_Y (io), C15 I/O, L19N (io), C16 I/O, L21N (io), C17 I/O (io), C18 I/O (io), D12 I/O, L13P_Y (io), D13 I/O, L15P (io), D14 I/O, L17P_Y (io), D15 I/O, VREF Bank 1, L19P (io), D16 I/O, L21P (io), E12 I/O, L13N_Y (io), E15 I/O (io), E16 I/O, VREF Bank 1, L22P_YY (io), E17 I/O, L22N_YY (io)
part C pins: C21 I/O (DOUT, BUSY), L27P_YY (io), D21 I/O, L29P (io), D22 I/O, L29N (io), E19 I/O, L28P (io), E20 I/O, L28N (io), E21 I/O (io), E22 I/O, L31N_Y (io), F19 I/O, L30P_Y (io), F20 I/O, L30N_Y (io), F21 I/O, VREF Bank 2, L31P_Y (io), F22 I/O (io), G18 I/O, L32P_Y (io), G19 I/O, L32N_Y (io), G20 I/O, L33P (io), G21 I/O, L33N (io), H18 I/O, VREF Bank 2, L34P (io), H19 I/O (D1), L34N (io), H20 I/O (D2), L35P_Y (io), H21 I/O, L35N_Y (io), H22 I/O, L36N_Y (io), J18 I/O, L36P_Y (io), J19 I/O, L37P_Y (io), J20 I/O, L37N_Y (io), J22 I/O, L38P_Y (io), K17 I/O, L38N_Y (io), K18 I/O, VREF Bank 2, L39P (io), K19 I/O (D3), L39N (io), K22 I/O, L40P_Y (io), L17 I/O, L40N_Y (io), L18 I/O (io), L20 I/O, L41P_YY (io), L21 I/O (IRDY), L41N_YY (io)
part D pins: L22 I/O (TRDY) (io), M18 I/O, L42P_Y (io), M19 I/O (io), M21 I/O, L42N_Y (io), N17 I/O (D4), L43P (io), N18 I/O, VREF Bank 3, L43N (io), N19 I/O, L44N_YY (io), N20 I/O, L44P_YY (io), N21 I/O, L45P_Y (io), N22 I/O, L45N_Y (io), P18 I/O, L46N_Y (io), P19 I/O, L46P_Y (io), P21 I/O, L47P_YY (io), P22 I/O (D5), L47N_YY (io), R18 I/O, VREF Bank 3, L48N (io), R19 I/O (D6), L48P (io), R21 I/O, L49N_Y (io), R22 I/O, L49P_Y (io), T18 I/O, L50N_Y (io), T19 I/O, L50P_Y (io), T20 I/O (io), T21 I/O, VREF Bank 3, L51N_Y (io), T22 I/O, L51P_Y (io), U18 I/O, L52N (io), U19 I/O, L52P (io), U20 I/O (io), U22 I/O, L53P (io), V19 I/O, L54N_Y (io), V20 I/O, L54P_Y (io), V21 I/O (io), V22 I/O, L53N (io), Y22 I/O (D7), L55P_YY (io)
part E pins: AA15 I/O, L64N (io), AA16 I/O, L62N_Y (io), AA17 I/O, L60N_YY (io), AA19 I/O, L57N_Y (io), AA20 I/O, L56P_YY (io), AB13 I/O (io), AB14 I/O, L67P (io), AB17 I/O (io), AB18 I/O (io), AB19 I/O (io), AB20 I/O, L56N_YY (io), U12 I/O, L69P_Y (io), U13 I/O, L67N (io), U14 I/O, L65N_Y (io), V12 I/O, L69N_Y (io), V13 I/O, VREF Bank 4, L68P (io), V14 I/O, L65P_Y (io), V15 I/O, VREF Bank 4, L63P (io), V16 I/O, L61P_Y (io), V17 I/O, L59P (io), W13 I/O, L68N (io), W14 I/O, L66P_Y (io), W15 I/O, L63N (io), W16 I/O, L61N_Y (io), W17 I/O, L59N (io), W18 I/O, L58P (io), Y12 I/O (DLL), L70P (io), Y14 I/O, L66N_Y (io), Y15 I/O, L64P (io), Y16 I/O, L62P_Y (io), Y17 I/O, VREF Bank 4, L60P_YY (io), Y18 I/O, L58N (io), Y19 I/O, L57P_Y (io)
part F pins: AA3 I/O, L84N_Y (io), AA5 I/O, L83N_Y (io), AA6 I/O (io), AA7 I/O, L80P_YY (io), AA8 I/O, L78P (io), AA9 I/O, L76P (io), AB3 I/O, L84P_Y (io), AB5 I/O, L82N (io), AB6 I/O, L82P (io), AB7 I/O, VREF Bank 5, L80N_YY (io), AB8 I/O, L78N (io), AB9 I/O, L76N (io), AB11 I/O (DLL), L70N (io), U9 I/O, L74P_Y (io), U10 I/O, L72P (io), V6 I/O, L81N_YY (io), V7 I/O, L79N (io), V8 I/O, VREF Bank 5, L77N (io), V9 I/O, L74N_Y (io), V10 I/O, VREF Bank 5, L72N (io), W5 I/O, L83P_Y (io), W6 I/O, L81P_YY (io), W7 I/O, L79P (io), W8 I/O, L77P (io), W9 I/O, L75N_Y (io), W10 I/O, L73N (io), W11 I/O, L71N (io), Y5 I/O (io), Y7 I/O (io), Y9 I/O, L75P_Y (io), Y10 I/O, L73P (io), Y11 I/O, L71P (io)
part G pins: M1 I/O (TRDY) (io), M3 I/O (io), M4 I/O, L98P_Y (io), M5 I/O, L98N_Y (io), N2 I/O, L97P (io), N3 I/O, VREF Bank 6, L97N (io), N4 I/O, L96P_Y (io), N5 I/O, L96N_Y (io), P1 I/O, L95P_Y (io), P2 I/O, L95N_Y (io), P3 I/O, L94N_Y (io), P5 I/O, L93P_YY (io), P6 I/O, L93N_YY (io), R1 I/O, L94P_Y (io), R2 I/O, L92P (io), R3 I/O, VREF Bank 6, L92N (io), R5 I/O (io), T1 I/O, L89P_Y (io), T2 I/O, L91P (io), T3 I/O, L91N (io), T4 I/O, L90P_Y (io), T5 I/O, L90N_Y (io), U1 I/O, VREF Bank 6, L89N_Y (io), U2 I/O (io), U3 I/O, L88P_Y (io), U4 I/O, L88N_Y (io), V2 I/O, L87N (io), V3 I/O, L86P (io), V4 I/O, L86N (io), W1 I/O, L87P (io), W2 I/O (io), W3 I/O, L85N_YY (io), Y2 I/O, L85P_YY (io)
part H pins: C1 I/O, L113N_Y (io), D1 I/O, L112N_Y (io), D2 I/O, L112P_Y (io), D3 I/O, L113P_Y (io), E2 I/O, L111P (io), E3 I/O, L111N (io), F1 I/O, L109N_Y (io), F2 I/O, VREF Bank 7, L109P_Y (io), F3 I/O, L110N (io), F4 I/O, L110P (io), F5 I/O (io), G1 I/O, L107N_Y (io), G2 I/O, L107P_Y (io), G3 I/O, L108N_Y (io), G4 I/O, L108P_Y (io), G5 I/O (io), H1 I/O, L105N_YY (io), H2 I/O, L105P_YY (io), H3 I/O, VREF Bank 7, L106P (io), H4 I/O, L106N (io), J2 I/O, L103N_Y (io), J3 I/O, L103P_Y (io), J4 I/O, L104P_Y (io), J5 I/O, L104N_Y (io), K3 I/O, VREF Bank 7, L101P (io), K4 I/O, L101N (io), K5 I/O, L102P_YY (io), K6 I/O, L102N_YY (io), L1 I/O, L100P_Y (io), L2 I/O (io), L3 I/O, L100N_Y (io), L5 I/O, L99P_YY (io), L6 I/O (IRDY), L99N_YY (io)
part I pins: A11 GCK2, I (in), AA12 GCK0, I (in), AB12 GCK1, I (in), C11 GCK3, I (in)
part J pins: A21 TDO (out), AA1 M0 (in), AB2 M2 (in), B22 CCLK (io), C19 TDI (in), C22 DIN (io) "I/O (DIN, D0), L27N_YY", E4 TMS (in), E6 TCK (in), U5 M1 (in), W20 DONE (io), W21 ~{INIT} (io) "I/O (I\N\I\T\), L55N_YY", Y21 PROGRAM (in)
part K pins: E5 VCCINT (power), E18 VCCINT (power), F6 VCCINT (power), F7 VCCO Bank 0 (power), F8 VCCO Bank 0 (power), F15 VCCO Bank 1 (power), F16 VCCO Bank 1 (power), F17 VCCINT (power), G6 VCCO Bank 7 (power), G7 VCCINT (power), G8 VCCINT (power), G9 VCCO Bank 0 (power), G10 VCCO Bank 0 (power), G13 VCCO Bank 1 (power), G14 VCCO Bank 1 (power), G15 VCCINT (power), G16 VCCINT (power), G17 VCCO Bank 2 (power), H6 VCCO Bank 7 (power), H7 VCCINT (power), H16 VCCINT (power), H17 VCCO Bank 2 (power), J7 VCCO Bank 7 (power), J16 VCCO Bank 2 (power), K7 VCCO Bank 7 (power), K16 VCCO Bank 2 (power), N7 VCCO Bank 6 (power), N16 VCCO Bank 3 (power), P7 VCCO Bank 6 (power), P16 VCCO Bank 3 (power), R6 VCCO Bank 6 (power), R7 VCCINT (power), R16 VCCINT (power), R17 VCCO Bank 3 (power), T6 VCCO Bank 6 (power), T7 VCCINT (power), T8 VCCINT (power), T9 VCCO Bank 5 (power), T10 VCCO Bank 5 (power), T13 VCCO Bank 4 (power), T14 VCCO Bank 4 (power), T15 VCCINT (power), T16 VCCINT (power), T17 VCCO Bank 3 (power), U6 VCCINT (power), U7 VCCO Bank 5 (power), U8 VCCO Bank 5 (power), U15 VCCO Bank 4 (power), U16 VCCO Bank 4 (power), U17 VCCINT (power), V5 VCCINT (power), V18 VCCINT (power)
part L pins: A1 GND (power), A22 GND (power), AA2 GND (power), AA21 GND (power), AB1 GND (power), AB22 GND (power), B2 GND (power), B21 GND (power), C3 GND (power), C20 GND (power), G11 GND (power), G12 GND (power), J9 GND (power), J10 GND (power), J11 GND (power), J12 GND (power), J13 GND (power), J14 GND (power), K9 GND (power), K10 GND (power), K11 GND (power), K12 GND (power), K13 GND (power), K14 GND (power), L7 GND (power), L9 GND (power), L10 GND (power), L11 GND (power), L12 GND (power), L13 GND (power), L14 GND (power), L16 GND (power), M7 GND (power), M9 GND (power), M10 GND (power), M11 GND (power), M12 GND (power), M13 GND (power), M14 GND (power), M16 GND (power), N9 GND (power), N10 GND (power), N11 GND (power), N12 GND (power), N13 GND (power), N14 GND (power), P9 GND (power), P10 GND (power), P11 GND (power), P12 GND (power), P13 GND (power), P14 GND (power), T11 GND (power), T12 GND (power), Y3 GND (power), Y20 GND (power)
part M pins: A2 NC, A7 NC, AA4 NC, AA10 NC, AA11 NC, AA13 NC, AA14 NC, AA18 NC, AA22 NC, AB4 NC, AB10 NC, AB15 NC, AB16 NC, AB21 NC, B1 NC, B9 NC, C2 NC, C4 NC, C12 NC, D4 NC, D6 NC, D11 NC, D17 NC, D18 NC, D19 NC, D20 NC, E1 NC, E10 NC, E11 NC, E13 NC, E14 NC, F11 NC, F12 NC, F13 NC, F14 NC, F18 NC, G22 NC, H5 NC, J1 NC, J6 NC, J17 NC, J21 NC, K1 NC, K2 NC, K20 NC, K21 NC, L4 NC, L19 NC, M2 NC, M6 NC, M17 NC, M20 NC, M22 NC, N1 NC, N6 NC, P4 NC, P17 NC, P20 NC, R4 NC, R20 NC, U11 NC, U21 NC, V1 NC, V11 NC, W4 NC, W12 NC, W19 NC, W22 NC, Y1 NC, Y4 NC, Y6 NC, Y8 NC, Y13 NC
part A text: BANK 0
part B text: BANK 1
part C text: BANK 2
part D text: BANK 3
part E text: BANK 4
part F text: BANK 5
part G text: BANK 6
part H text: BANK 7

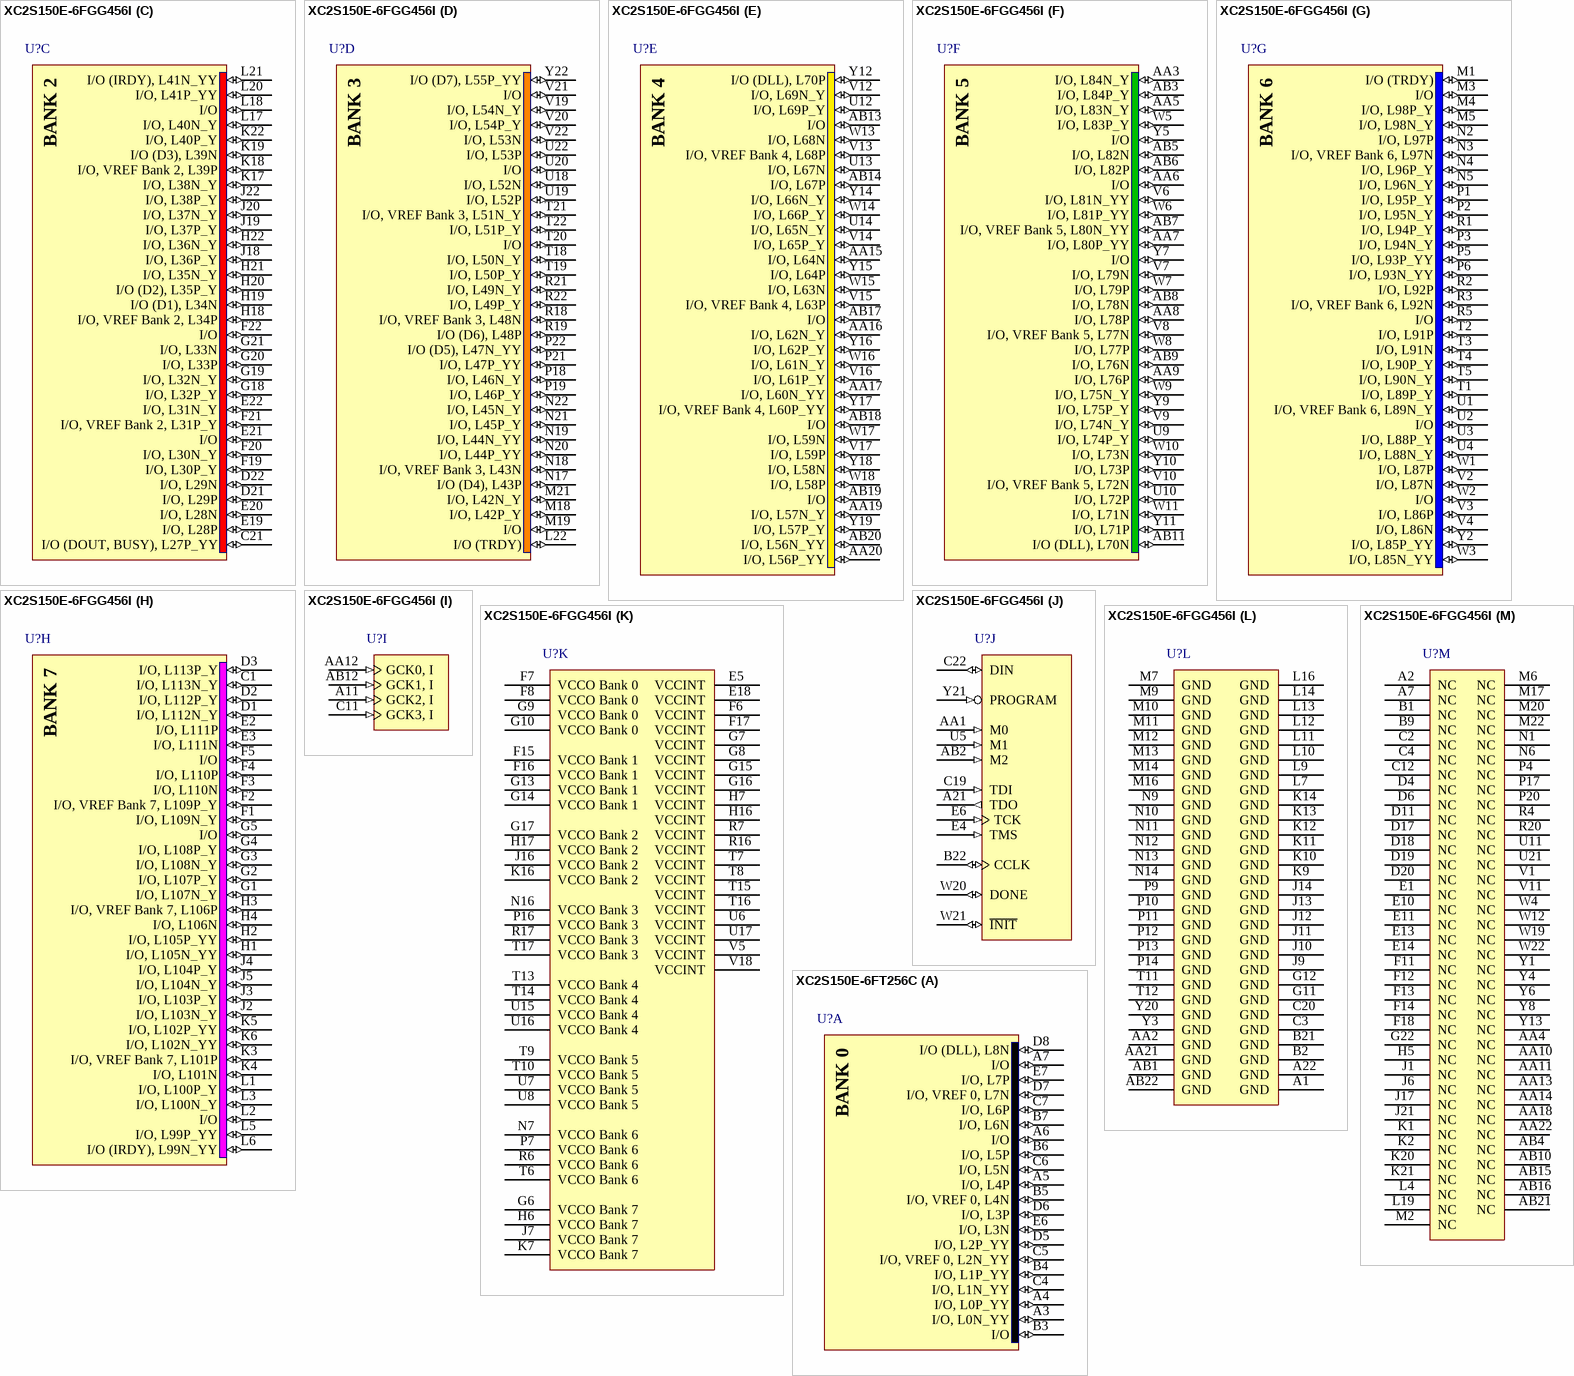
[diagram p33: symbols XC2S150E-6FGG456I to XC2S150E-6FT256C]

## XC2S150E-6FGG456I
designator U?
Spartan-IIE 1.8V FPGA, 456-Ball FBGA, Standard Performance, Industrial Grade, Pb-Free; Published: 2-Mar-2006; DatasheetVersion: 28-Jul-2004; PackageVersion: ver1.2.1, Mar-2005; PackageReference: FGG456; Publisher: Altium Limited; PackageDescription: 456-Ball Fine Pitch Ball Grid Array (FGG456) - Pb-Free; Code_JEDEC: MO-151-AAJ-1 (Depopulated); ComponentLink1Description: Manufacturer Link; ComponentLink1URL: http://www.xilinx.com/products/silicon_solutions/fpgas/spartan_series/spartan2e_fpgas/index.htm; ComponentLink2Description: Datasheet; ComponentLink2URL: http://direct.xilinx.com/bvdocs/publications/ds077.pdf
footprint FGG456 (BGA, 456-Leads, Body 23x23mm, Pitch 1mm)
3D model XC2S150E-FG456 (456-Ball Fine Pitch Ball Grid Array (FGG456) - Pb-Free)
signal-integrity model XC2S150E_FGG456 (Spartan-IIE)
part A pins: A3 I/O, L0P_Y (io), A4 I/O (io), A5 I/O, L2P (io), A6 I/O, L3P_YY (io), A8 I/O, L7P (io), A9 I/O (io), A10 I/O, L11P (io), B3 I/O, L0N_Y (io), B4 I/O, L1P (io), B5 I/O, L2N (io), B6 I/O, VREF Bank 0, L3N_YY (io), B7 I/O (io), B8 I/O, L7N (io), B10 I/O, L11N (io), B11 I/O (DLL), L12N (io), C5 I/O, L1N (io), C6 I/O (io), C7 I/O, L5P_Y (io), C8 I/O, L6P (io), C9 I/O, L9P_Y (io), C10 I/O, L10P (io), D5 I/O (io), D7 I/O, L5N_Y (io), D8 I/O, VREF Bank 0, L6N (io), D9 I/O, L9N_Y (io), D10 I/O, VREF Bank 0, L10N (io), E7 I/O, L4N_Y (io), E8 I/O, L4P_Y (io), E9 I/O, L8N_Y (io), F9 I/O, L8P_Y (io), F10 I/O (io)
part B pins: A12 I/O (DLL), L12P (io), A13 I/O, L14N (io), A14 I/O, L16N_Y (io), A15 I/O, L18N (io), A16 I/O, L20N (io), A17 I/O, L23N_YY (io), A18 I/O, L24N (io), A19 I/O, L25N (io), A20 I/O (~{WRITE}), L26N_YY (io), B12 I/O (io), B13 I/O, VREF Bank 1, L14P (io), B14 I/O, L16P_Y (io), B15 I/O, L18P (io), B16 I/O, L20P (io), B17 I/O, L23P_YY (io), B18 I/O, L24P (io), B19 I/O, L25P (io), B20 I/O (~{CS}), L26P_YY (io), C13 I/O, L15N (io), C14 I/O, L17N_Y (io), C15 I/O, L19N (io), C16 I/O, L21N (io), C17 I/O (io), C18 I/O (io), D12 I/O, L13P_Y (io), D13 I/O, L15P (io), D14 I/O, L17P_Y (io), D15 I/O, VREF Bank 1, L19P (io), D16 I/O, L21P (io), E12 I/O, L13N_Y (io), E15 I/O (io), E16 I/O, VREF Bank 1, L22P_YY (io), E17 I/O, L22N_YY (io)
part C pins: C21 I/O (DOUT, BUSY), L27P_YY (io), D21 I/O, L29P (io), D22 I/O, L29N (io), E19 I/O, L28P (io), E20 I/O, L28N (io), E21 I/O (io), E22 I/O, L31N_Y (io), F19 I/O, L30P_Y (io), F20 I/O, L30N_Y (io), F21 I/O, VREF Bank 2, L31P_Y (io), F22 I/O (io), G18 I/O, L32P_Y (io), G19 I/O, L32N_Y (io), G20 I/O, L33P (io), G21 I/O, L33N (io), H18 I/O, VREF Bank 2, L34P (io), H19 I/O (D1), L34N (io), H20 I/O (D2), L35P_Y (io), H21 I/O, L35N_Y (io), H22 I/O, L36N_Y (io), J18 I/O, L36P_Y (io), J19 I/O, L37P_Y (io), J20 I/O, L37N_Y (io), J22 I/O, L38P_Y (io), K17 I/O, L38N_Y (io), K18 I/O, VREF Bank 2, L39P (io), K19 I/O (D3), L39N (io), K22 I/O, L40P_Y (io), L17 I/O, L40N_Y (io), L18 I/O (io), L20 I/O, L41P_YY (io), L21 I/O (IRDY), L41N_YY (io)
part D pins: L22 I/O (TRDY) (io), M18 I/O, L42P_Y (io), M19 I/O (io), M21 I/O, L42N_Y (io), N17 I/O (D4), L43P (io), N18 I/O, VREF Bank 3, L43N (io), N19 I/O, L44N_YY (io), N20 I/O, L44P_YY (io), N21 I/O, L45P_Y (io), N22 I/O, L45N_Y (io), P18 I/O, L46N_Y (io), P19 I/O, L46P_Y (io), P21 I/O, L47P_YY (io), P22 I/O (D5), L47N_YY (io), R18 I/O, VREF Bank 3, L48N (io), R19 I/O (D6), L48P (io), R21 I/O, L49N_Y (io), R22 I/O, L49P_Y (io), T18 I/O, L50N_Y (io), T19 I/O, L50P_Y (io), T20 I/O (io), T21 I/O, VREF Bank 3, L51N_Y (io), T22 I/O, L51P_Y (io), U18 I/O, L52N (io), U19 I/O, L52P (io), U20 I/O (io), U22 I/O, L53P (io), V19 I/O, L54N_Y (io), V20 I/O, L54P_Y (io), V21 I/O (io), V22 I/O, L53N (io), Y22 I/O (D7), L55P_YY (io)
part E pins: AA15 I/O, L64N (io), AA16 I/O, L62N_Y (io), AA17 I/O, L60N_YY (io), AA19 I/O, L57N_Y (io), AA20 I/O, L56P_YY (io), AB13 I/O (io), AB14 I/O, L67P (io), AB17 I/O (io), AB18 I/O (io), AB19 I/O (io), AB20 I/O, L56N_YY (io), U12 I/O, L69P_Y (io), U13 I/O, L67N (io), U14 I/O, L65N_Y (io), V12 I/O, L69N_Y (io), V13 I/O, VREF Bank 4, L68P (io), V14 I/O, L65P_Y (io), V15 I/O, VREF Bank 4, L63P (io), V16 I/O, L61P_Y (io), V17 I/O, L59P (io), W13 I/O, L68N (io), W14 I/O, L66P_Y (io), W15 I/O, L63N (io), W16 I/O, L61N_Y (io), W17 I/O, L59N (io), W18 I/O, L58P (io), Y12 I/O (DLL), L70P (io), Y14 I/O, L66N_Y (io), Y15 I/O, L64P (io), Y16 I/O, L62P_Y (io), Y17 I/O, VREF Bank 4, L60P_YY (io), Y18 I/O, L58N (io), Y19 I/O, L57P_Y (io)
part F pins: AA3 I/O, L84N_Y (io), AA5 I/O, L83N_Y (io), AA6 I/O (io), AA7 I/O, L80P_YY (io), AA8 I/O, L78P (io), AA9 I/O, L76P (io), AB3 I/O, L84P_Y (io), AB5 I/O, L82N (io), AB6 I/O, L82P (io), AB7 I/O, VREF Bank 5, L80N_YY (io), AB8 I/O, L78N (io), AB9 I/O, L76N (io), AB11 I/O (DLL), L70N (io), U9 I/O, L74P_Y (io), U10 I/O, L72P (io), V6 I/O, L81N_YY (io), V7 I/O, L79N (io), V8 I/O, VREF Bank 5, L77N (io), V9 I/O, L74N_Y (io), V10 I/O, VREF Bank 5, L72N (io), W5 I/O, L83P_Y (io), W6 I/O, L81P_YY (io), W7 I/O, L79P (io), W8 I/O, L77P (io), W9 I/O, L75N_Y (io), W10 I/O, L73N (io), W11 I/O, L71N (io), Y5 I/O (io), Y7 I/O (io), Y9 I/O, L75P_Y (io), Y10 I/O, L73P (io), Y11 I/O, L71P (io)
part G pins: M1 I/O (TRDY) (io), M3 I/O (io), M4 I/O, L98P_Y (io), M5 I/O, L98N_Y (io), N2 I/O, L97P (io), N3 I/O, VREF Bank 6, L97N (io), N4 I/O, L96P_Y (io), N5 I/O, L96N_Y (io), P1 I/O, L95P_Y (io), P2 I/O, L95N_Y (io), P3 I/O, L94N_Y (io), P5 I/O, L93P_YY (io), P6 I/O, L93N_YY (io), R1 I/O, L94P_Y (io), R2 I/O, L92P (io), R3 I/O, VREF Bank 6, L92N (io), R5 I/O (io), T1 I/O, L89P_Y (io), T2 I/O, L91P (io), T3 I/O, L91N (io), T4 I/O, L90P_Y (io), T5 I/O, L90N_Y (io), U1 I/O, VREF Bank 6, L89N_Y (io), U2 I/O (io), U3 I/O, L88P_Y (io), U4 I/O, L88N_Y (io), V2 I/O, L87N (io), V3 I/O, L86P (io), V4 I/O, L86N (io), W1 I/O, L87P (io), W2 I/O (io), W3 I/O, L85N_YY (io), Y2 I/O, L85P_YY (io)
part H pins: C1 I/O, L113N_Y (io), D1 I/O, L112N_Y (io), D2 I/O, L112P_Y (io), D3 I/O, L113P_Y (io), E2 I/O, L111P (io), E3 I/O, L111N (io), F1 I/O, L109N_Y (io), F2 I/O, VREF Bank 7, L109P_Y (io), F3 I/O, L110N (io), F4 I/O, L110P (io), F5 I/O (io), G1 I/O, L107N_Y (io), G2 I/O, L107P_Y (io), G3 I/O, L108N_Y (io), G4 I/O, L108P_Y (io), G5 I/O (io), H1 I/O, L105N_YY (io), H2 I/O, L105P_YY (io), H3 I/O, VREF Bank 7, L106P (io), H4 I/O, L106N (io), J2 I/O, L103N_Y (io), J3 I/O, L103P_Y (io), J4 I/O, L104P_Y (io), J5 I/O, L104N_Y (io), K3 I/O, VREF Bank 7, L101P (io), K4 I/O, L101N (io), K5 I/O, L102P_YY (io), K6 I/O, L102N_YY (io), L1 I/O, L100P_Y (io), L2 I/O (io), L3 I/O, L100N_Y (io), L5 I/O, L99P_YY (io), L6 I/O (IRDY), L99N_YY (io)
part I pins: A11 GCK2, I (in), AA12 GCK0, I (in), AB12 GCK1, I (in), C11 GCK3, I (in)
part J pins: A21 TDO (out), AA1 M0 (in), AB2 M2 (in), B22 CCLK (io), C19 TDI (in), C22 DIN (io) "I/O (DIN, D0), L27N_YY", E4 TMS (in), E6 TCK (in), U5 M1 (in), W20 DONE (io), W21 ~{INIT} (io) "I/O (I\N\I\T\), L55N_YY", Y21 PROGRAM (in)
part K pins: E5 VCCINT (power), E18 VCCINT (power), F6 VCCINT (power), F7 VCCO Bank 0 (power), F8 VCCO Bank 0 (power), F15 VCCO Bank 1 (power), F16 VCCO Bank 1 (power), F17 VCCINT (power), G6 VCCO Bank 7 (power), G7 VCCINT (power), G8 VCCINT (power), G9 VCCO Bank 0 (power), G10 VCCO Bank 0 (power), G13 VCCO Bank 1 (power), G14 VCCO Bank 1 (power), G15 VCCINT (power), G16 VCCINT (power), G17 VCCO Bank 2 (power), H6 VCCO Bank 7 (power), H7 VCCINT (power), H16 VCCINT (power), H17 VCCO Bank 2 (power), J7 VCCO Bank 7 (power), J16 VCCO Bank 2 (power), K7 VCCO Bank 7 (power), K16 VCCO Bank 2 (power), N7 VCCO Bank 6 (power), N16 VCCO Bank 3 (power), P7 VCCO Bank 6 (power), P16 VCCO Bank 3 (power), R6 VCCO Bank 6 (power), R7 VCCINT (power), R16 VCCINT (power), R17 VCCO Bank 3 (power), T6 VCCO Bank 6 (power), T7 VCCINT (power), T8 VCCINT (power), T9 VCCO Bank 5 (power), T10 VCCO Bank 5 (power), T13 VCCO Bank 4 (power), T14 VCCO Bank 4 (power), T15 VCCINT (power), T16 VCCINT (power), T17 VCCO Bank 3 (power), U6 VCCINT (power), U7 VCCO Bank 5 (power), U8 VCCO Bank 5 (power), U15 VCCO Bank 4 (power), U16 VCCO Bank 4 (power), U17 VCCINT (power), V5 VCCINT (power), V18 VCCINT (power)
part L pins: A1 GND (power), A22 GND (power), AA2 GND (power), AA21 GND (power), AB1 GND (power), AB22 GND (power), B2 GND (power), B21 GND (power), C3 GND (power), C20 GND (power), G11 GND (power), G12 GND (power), J9 GND (power), J10 GND (power), J11 GND (power), J12 GND (power), J13 GND (power), J14 GND (power), K9 GND (power), K10 GND (power), K11 GND (power), K12 GND (power), K13 GND (power), K14 GND (power), L7 GND (power), L9 GND (power), L10 GND (power), L11 GND (power), L12 GND (power), L13 GND (power), L14 GND (power), L16 GND (power), M7 GND (power), M9 GND (power), M10 GND (power), M11 GND (power), M12 GND (power), M13 GND (power), M14 GND (power), M16 GND (power), N9 GND (power), N10 GND (power), N11 GND (power), N12 GND (power), N13 GND (power), N14 GND (power), P9 GND (power), P10 GND (power), P11 GND (power), P12 GND (power), P13 GND (power), P14 GND (power), T11 GND (power), T12 GND (power), Y3 GND (power), Y20 GND (power)
part M pins: A2 NC, A7 NC, AA4 NC, AA10 NC, AA11 NC, AA13 NC, AA14 NC, AA18 NC, AA22 NC, AB4 NC, AB10 NC, AB15 NC, AB16 NC, AB21 NC, B1 NC, B9 NC, C2 NC, C4 NC, C12 NC, D4 NC, D6 NC, D11 NC, D17 NC, D18 NC, D19 NC, D20 NC, E1 NC, E10 NC, E11 NC, E13 NC, E14 NC, F11 NC, F12 NC, F13 NC, F14 NC, F18 NC, G22 NC, H5 NC, J1 NC, J6 NC, J17 NC, J21 NC, K1 NC, K2 NC, K20 NC, K21 NC, L4 NC, L19 NC, M2 NC, M6 NC, M17 NC, M20 NC, M22 NC, N1 NC, N6 NC, P4 NC, P17 NC, P20 NC, R4 NC, R20 NC, U11 NC, U21 NC, V1 NC, V11 NC, W4 NC, W12 NC, W19 NC, W22 NC, Y1 NC, Y4 NC, Y6 NC, Y8 NC, Y13 NC
part A text: BANK 0
part B text: BANK 1
part C text: BANK 2
part D text: BANK 3
part E text: BANK 4
part F text: BANK 5
part G text: BANK 6
part H text: BANK 7

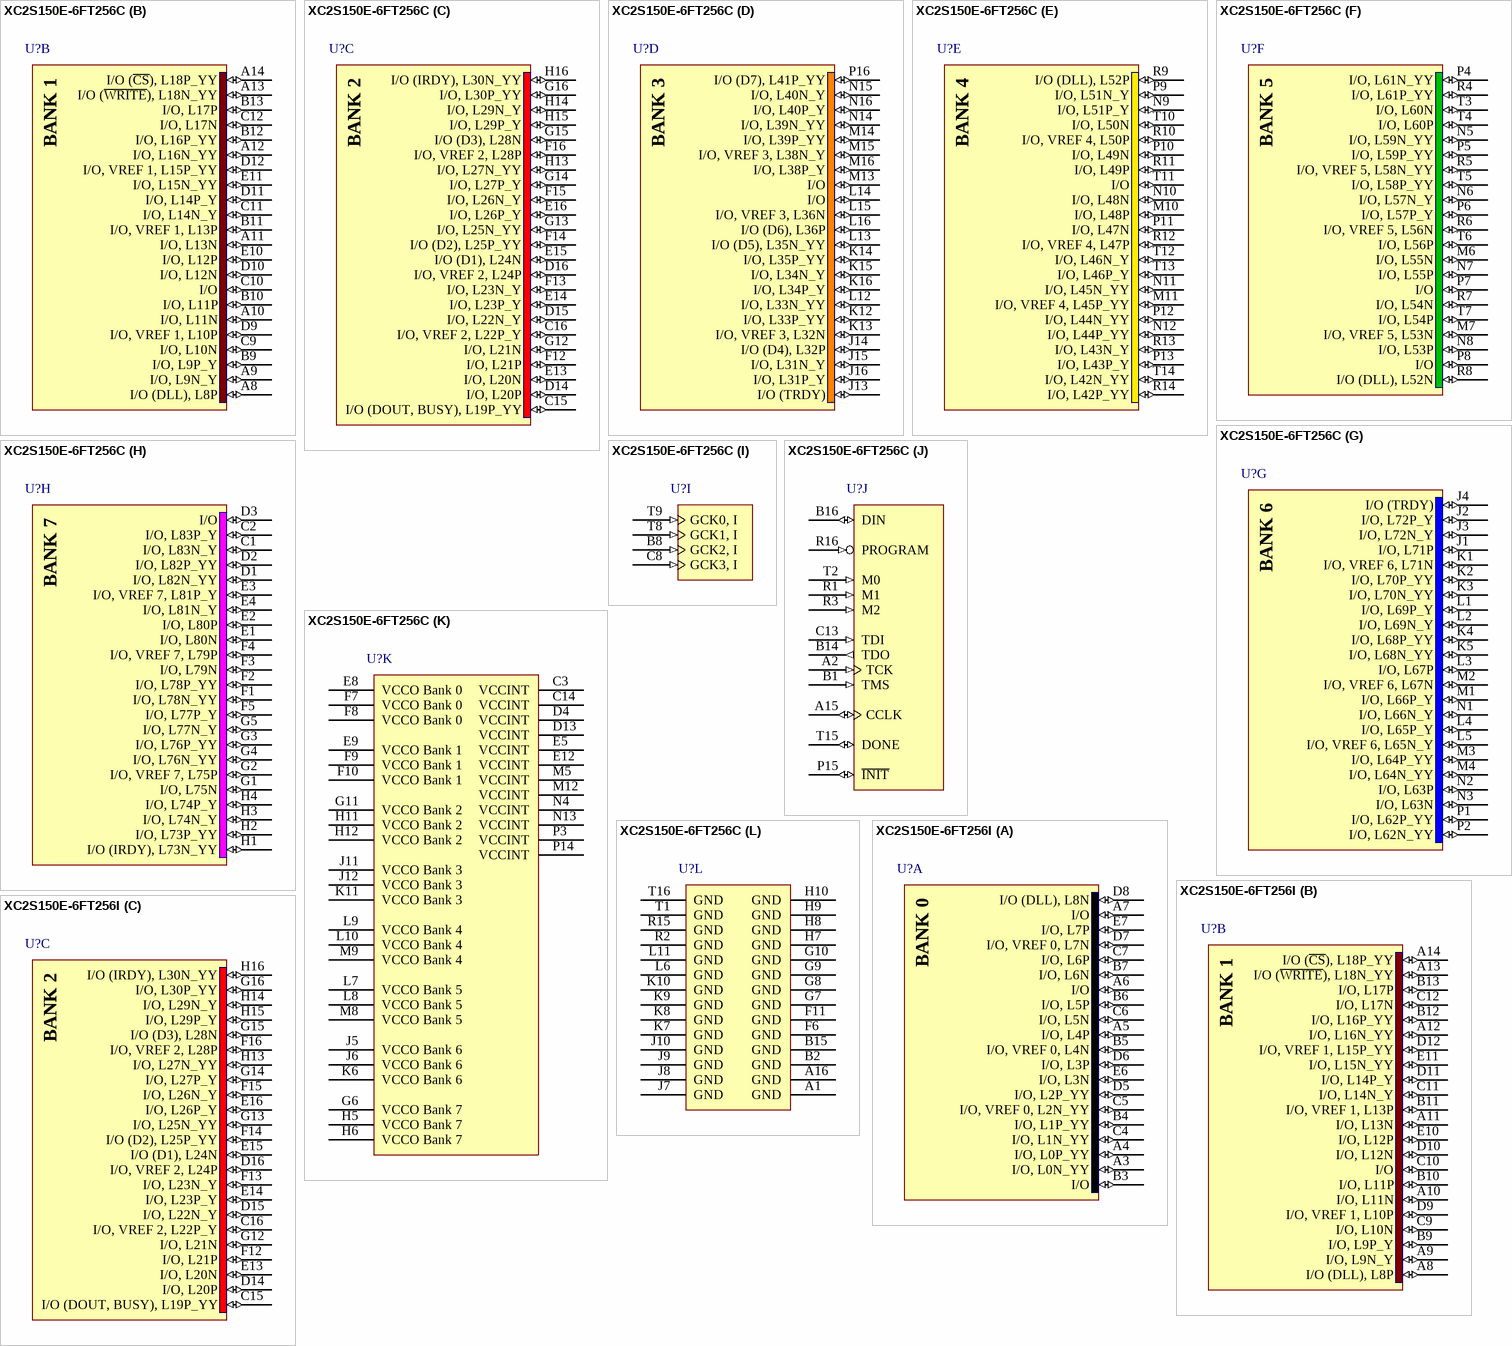
[diagram p34: symbols XC2S150E-6FT256C to XC2S150E-6FT256I]

## XC2S150E-6FT256C
designator U?
Spartan-IIE 1.8V FPGA, 256-Ball FTBGA, Standard Performance, Commercial Grade; Published: 17-Jan-2003; LatestRevisionDate: 13-Apr-2006; LatestRevisionNote: IPC-7351 Footprint Added.; DatasheetVersion: 28-Jul-2004; PackageVersion: ver1.2.1, Mar-2005; PackageReference: FT256; Publisher: Altium Limited; PackageDescription: 256-Ball Fine Pitch Thin Ball Grid Array 1.00 mm Pitch (FT256); Code_JEDEC: MS-034-AAF-1*; ComponentLink1Description: Manufacturer Link; ComponentLink1URL: http://www.xilinx.com/products/silicon_solutions/fpgas/spartan_series/spartan2e_fpgas/index.htm; ComponentLink2Description: Datasheet; ComponentLink2URL: http://direct.xilinx.com/bvdocs/publications/ds077.pdf
footprint FT256 (BGA, 256-Leads, Body 17x17mm, Pitch 1mm)
3D model XC2S150E-FT256 (256-Ball Fine Pitch Thin Ball Grid Array 1.00 mm Pitch (FT256))
signal-integrity model XC2S150E_FT256 (Spartan-IIE)
part A pins: A3 I/O, L0N_YY (io), A4 I/O, L0P_YY (io), A5 I/O, L4P (io), A6 I/O (io), A7 I/O (io), B3 I/O (io), B4 I/O, L1P_YY (io), B5 I/O, VREF 0, L4N (io), B6 I/O, L5P (io), B7 I/O, L6N (io), C4 I/O, L1N_YY (io), C5 I/O, VREF 0, L2N_YY (io), C6 I/O, L5N (io), C7 I/O, L6P (io), D5 I/O, L2P_YY (io), D6 I/O, L3P (io), D7 I/O, VREF 0, L7N (io), D8 I/O (DLL), L8N (io), E6 I/O, L3N (io), E7 I/O, L7P (io)
part B pins: A8 I/O (DLL), L8P (io), A9 I/O, L9N_Y (io), A10 I/O, L11N (io), A11 I/O, L13N (io), A12 I/O, L16N_YY (io), A13 I/O (~{WRITE}), L18N_YY (io), A14 I/O (~{CS}), L18P_YY (io), B9 I/O, L9P_Y (io), B10 I/O, L11P (io), B11 I/O, VREF 1, L13P (io), B12 I/O, L16P_YY (io), B13 I/O, L17P (io), C9 I/O, L10N (io), C10 I/O (io), C11 I/O, L14N_Y (io), C12 I/O, L17N (io), D9 I/O, VREF 1, L10P (io), D10 I/O, L12N (io), D11 I/O, L14P_Y (io), D12 I/O, VREF 1, L15P_YY (io), E10 I/O, L12P (io), E11 I/O, L15N_YY (io)
part C pins: C15 I/O (DOUT, BUSY), L19P_YY (io), C16 I/O, VREF 2, L22P_Y (io), D14 I/O, L20P (io), D15 I/O, L22N_Y (io), D16 I/O, VREF 2, L24P (io), E13 I/O, L20N (io), E14 I/O, L23P_Y (io), E15 I/O (D1), L24N (io), E16 I/O, L26P_Y (io), F12 I/O, L21P (io), F13 I/O, L23N_Y (io), F14 I/O (D2), L25P_YY (io), F15 I/O, L26N_Y (io), F16 I/O, VREF 2, L28P (io), G12 I/O, L21N (io), G13 I/O, L25N_YY (io), G14 I/O, L27P_Y (io), G15 I/O (D3), L28N (io), G16 I/O, L30P_YY (io), H13 I/O, L27N_YY (io), H14 I/O, L29N_Y (io), H15 I/O, L29P_Y (io), H16 I/O (IRDY), L30N_YY (io)
part D pins: J13 I/O (TRDY) (io), J14 I/O (D4), L32P (io), J15 I/O, L31N_Y (io), J16 I/O, L31P_Y (io), K12 I/O, L33P_YY (io), K13 I/O, VREF 3, L32N (io), K14 I/O, L35P_YY (io), K15 I/O, L34N_Y (io), K16 I/O, L34P_Y (io), L12 I/O, L33N_YY (io), L13 I/O (D5), L35N_YY (io), L14 I/O (io), L15 I/O, VREF 3, L36N (io), L16 I/O (D6), L36P (io), M13 I/O (io), M14 I/O, L39P_YY (io), M15 I/O, VREF 3, L38N_Y (io), M16 I/O, L38P_Y (io), N14 I/O, L39N_YY (io), N15 I/O, L40N_Y (io), N16 I/O, L40P_Y (io), P16 I/O (D7), L41P_YY (io)
part E pins: M10 I/O, L48P (io), M11 I/O, VREF 4, L45P_YY (io), N9 I/O, L51P_Y (io), N10 I/O, L48N (io), N11 I/O, L45N_YY (io), N12 I/O, L44P_YY (io), P9 I/O, L51N_Y (io), P10 I/O, L49N (io), P11 I/O, L47N (io), P12 I/O, L44N_YY (io), P13 I/O, L43P_Y (io), R9 I/O (DLL), L52P (io), R10 I/O, VREF 4, L50P (io), R11 I/O, L49P (io), R12 I/O, VREF 4, L47P (io), R13 I/O, L43N_Y (io), R14 I/O, L42P_YY (io), T10 I/O, L50N (io), T11 I/O (io), T12 I/O, L46N_Y (io), T13 I/O, L46P_Y (io), T14 I/O, L42N_YY (io)
part F pins: M6 I/O, L55N (io), M7 I/O, VREF 5, L53N (io), N5 I/O, L59N_YY (io), N6 I/O, L57N_Y (io), N7 I/O, L55P (io), N8 I/O, L53P (io), P4 I/O, L61N_YY (io), P5 I/O, L59P_YY (io), P6 I/O, L57P_Y (io), P7 I/O (io), P8 I/O (io), R4 I/O, L61P_YY (io), R5 I/O, VREF 5, L58N_YY (io), R6 I/O, VREF 5, L56N (io), R7 I/O, L54N (io), R8 I/O (DLL), L52N (io), T3 I/O, L60N (io), T4 I/O, L60P (io), T5 I/O, L58P_YY (io), T6 I/O, L56P (io), T7 I/O, L54P (io)
part G pins: J1 I/O, L71P (io), J2 I/O, L72P_Y (io), J3 I/O, L72N_Y (io), J4 I/O (TRDY) (io), K1 I/O, VREF 6, L71N (io), K2 I/O, L70P_YY (io), K3 I/O, L70N_YY (io), K4 I/O, L68P_YY (io), K5 I/O, L68N_YY (io), L1 I/O, L69P_Y (io), L2 I/O, L69N_Y (io), L3 I/O, L67P (io), L4 I/O, L65P_Y (io), L5 I/O, VREF 6, L65N_Y (io), M1 I/O, L66P_Y (io), M2 I/O, VREF 6, L67N (io), M3 I/O, L64P_YY (io), M4 I/O, L64N_YY (io), N1 I/O, L66N_Y (io), N2 I/O, L63P (io), N3 I/O, L63N (io), P1 I/O, L62P_YY (io), P2 I/O, L62N_YY (io)
part H pins: C1 I/O, L83N_Y (io), C2 I/O, L83P_Y (io), D1 I/O, L82N_YY (io), D2 I/O, L82P_YY (io), D3 I/O (io), E1 I/O, L80N (io), E2 I/O, L80P (io), E3 I/O, VREF 7, L81P_Y (io), E4 I/O, L81N_Y (io), F1 I/O, L78N_YY (io), F2 I/O, L78P_YY (io), F3 I/O, L79N (io), F4 I/O, VREF 7, L79P (io), F5 I/O, L77P_Y (io), G1 I/O, L75N (io), G2 I/O, VREF 7, L75P (io), G3 I/O, L76P_YY (io), G4 I/O, L76N_YY (io), G5 I/O, L77N_Y (io), H1 I/O (IRDY), L73N_YY (io), H2 I/O, L73P_YY (io), H3 I/O, L74N_Y (io), H4 I/O, L74P_Y (io)
part I pins: B8 GCK2, I (in), C8 GCK3, I (in), T8 GCK1, I (in), T9 GCK0, I (in)
part J pins: A2 TCK (in), A15 CCLK (io), B1 TMS (in), B14 TDO (out), B16 DIN (io) "I/O (DIN, D0), L19N_YY", C13 TDI (in), P15 ~{INIT} (io) "I/O (I\N\I\T\), L41N_YY", R1 M1 (in), R3 M2 (in), R16 PROGRAM (in), T2 M0 (in), T15 DONE (io)
part K pins: C3 VCCINT (power), C14 VCCINT (power), D4 VCCINT (power), D13 VCCINT (power), E5 VCCINT (power), E8 VCCO Bank 0 (power), E9 VCCO Bank 1 (power), E12 VCCINT (power), F7 VCCO Bank 0 (power), F8 VCCO Bank 0 (power), F9 VCCO Bank 1 (power), F10 VCCO Bank 1 (power), G6 VCCO Bank 7 (power), G11 VCCO Bank 2 (power), H5 VCCO Bank 7 (power), H6 VCCO Bank 7 (power), H11 VCCO Bank 2 (power), H12 VCCO Bank 2 (power), J5 VCCO Bank 6 (power), J6 VCCO Bank 6 (power), J11 VCCO Bank 3 (power), J12 VCCO Bank 3 (power), K6 VCCO Bank 6 (power), K11 VCCO Bank 3 (power), L7 VCCO Bank 5 (power), L8 VCCO Bank 5 (power), L9 VCCO Bank 4 (power), L10 VCCO Bank 4 (power), M5 VCCINT (power), M8 VCCO Bank 5 (power), M9 VCCO Bank 4 (power), M12 VCCINT (power), N4 VCCINT (power), N13 VCCINT (power), P3 VCCINT (power), P14 VCCINT (power)
part L pins: A1 GND (power), A16 GND (power), B2 GND (power), B15 GND (power), F6 GND (power), F11 GND (power), G7 GND (power), G8 GND (power), G9 GND (power), G10 GND (power), H7 GND (power), H8 GND (power), H9 GND (power), H10 GND (power), J7 GND (power), J8 GND (power), J9 GND (power), J10 GND (power), K7 GND (power), K8 GND (power), K9 GND (power), K10 GND (power), L6 GND (power), L11 GND (power), R2 GND (power), R15 GND (power), T1 GND (power), T16 GND (power)
part A text: BANK 0
part B text: BANK 1
part C text: BANK 2
part D text: BANK 3
part E text: BANK 4
part F text: BANK 5
part G text: BANK 6
part H text: BANK 7

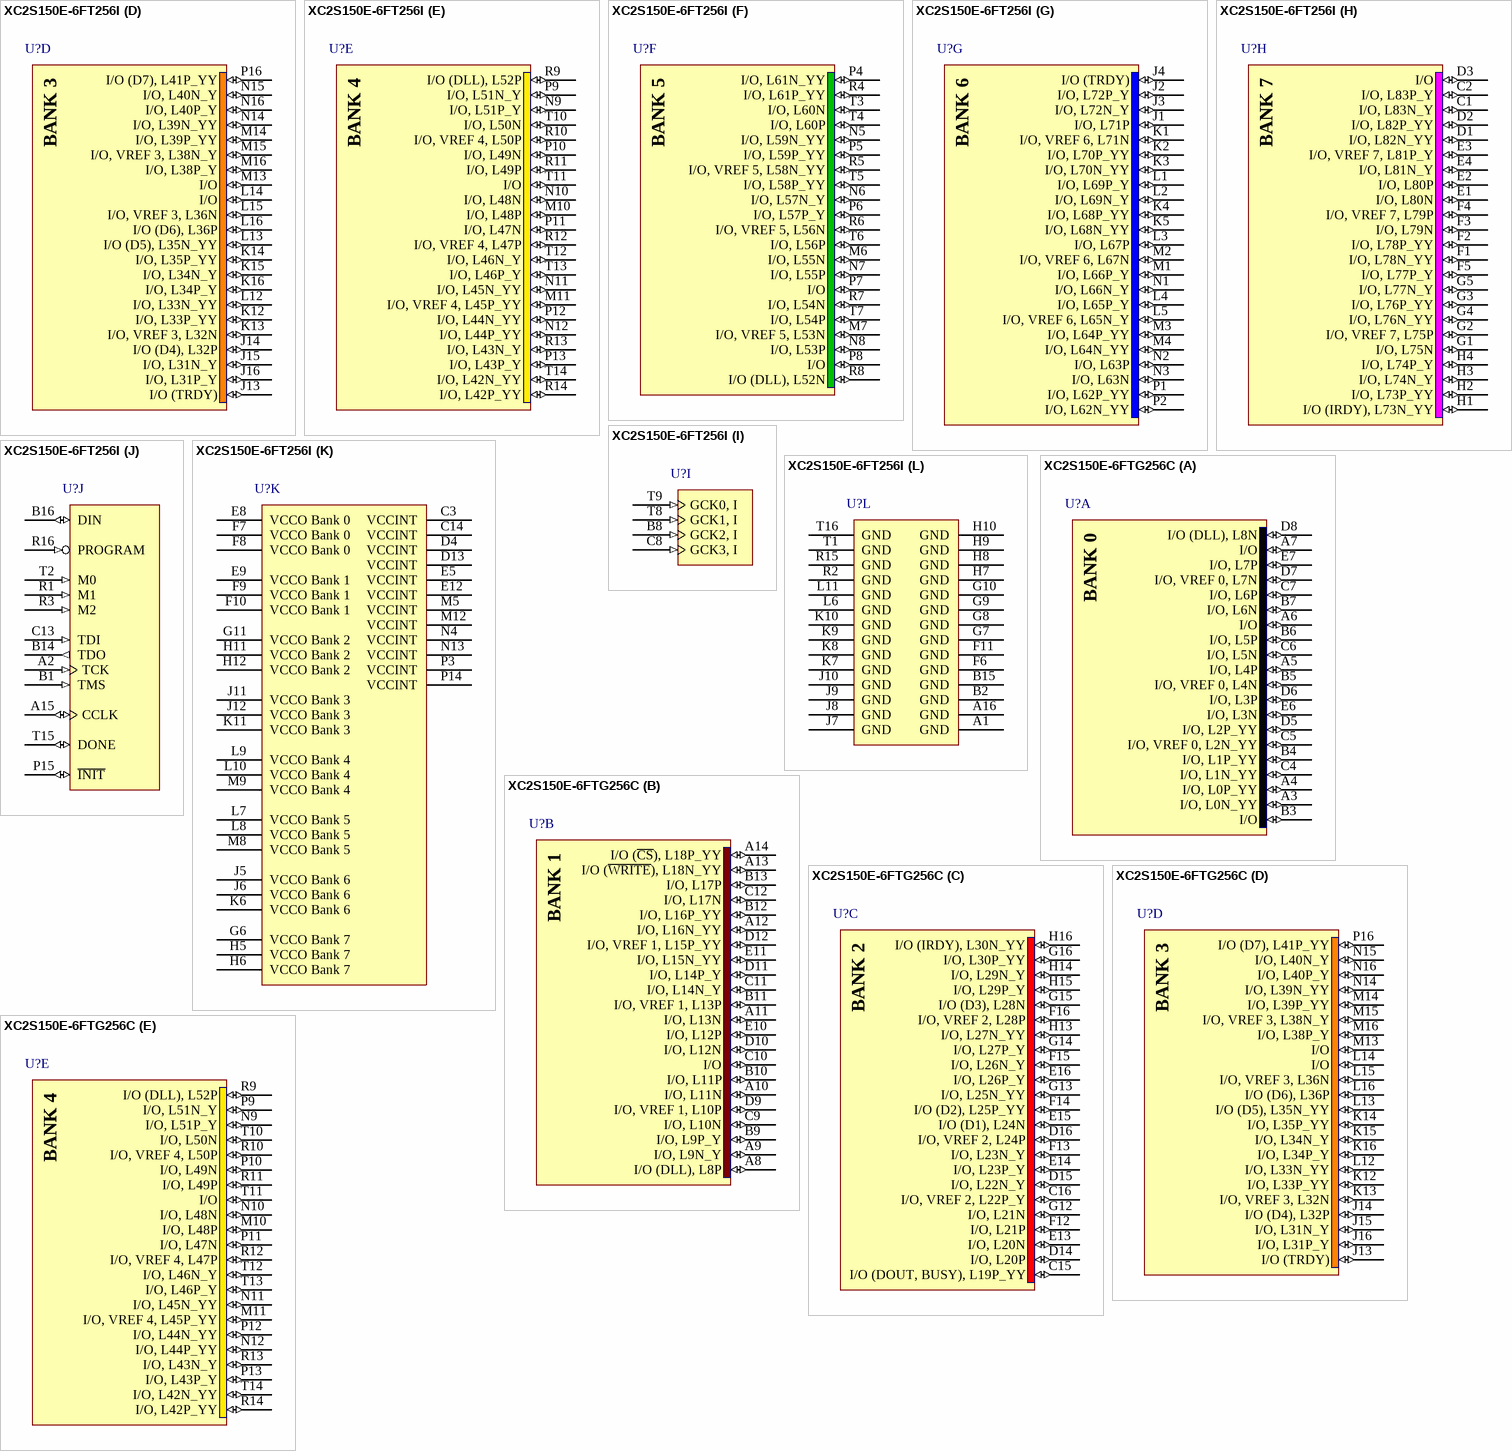
[diagram p35: symbols XC2S150E-6FT256I to XC2S150E-6FTG256C]